# Altium schematic symbol library IC.SchLib: 311 symbols (part 2 of 3)
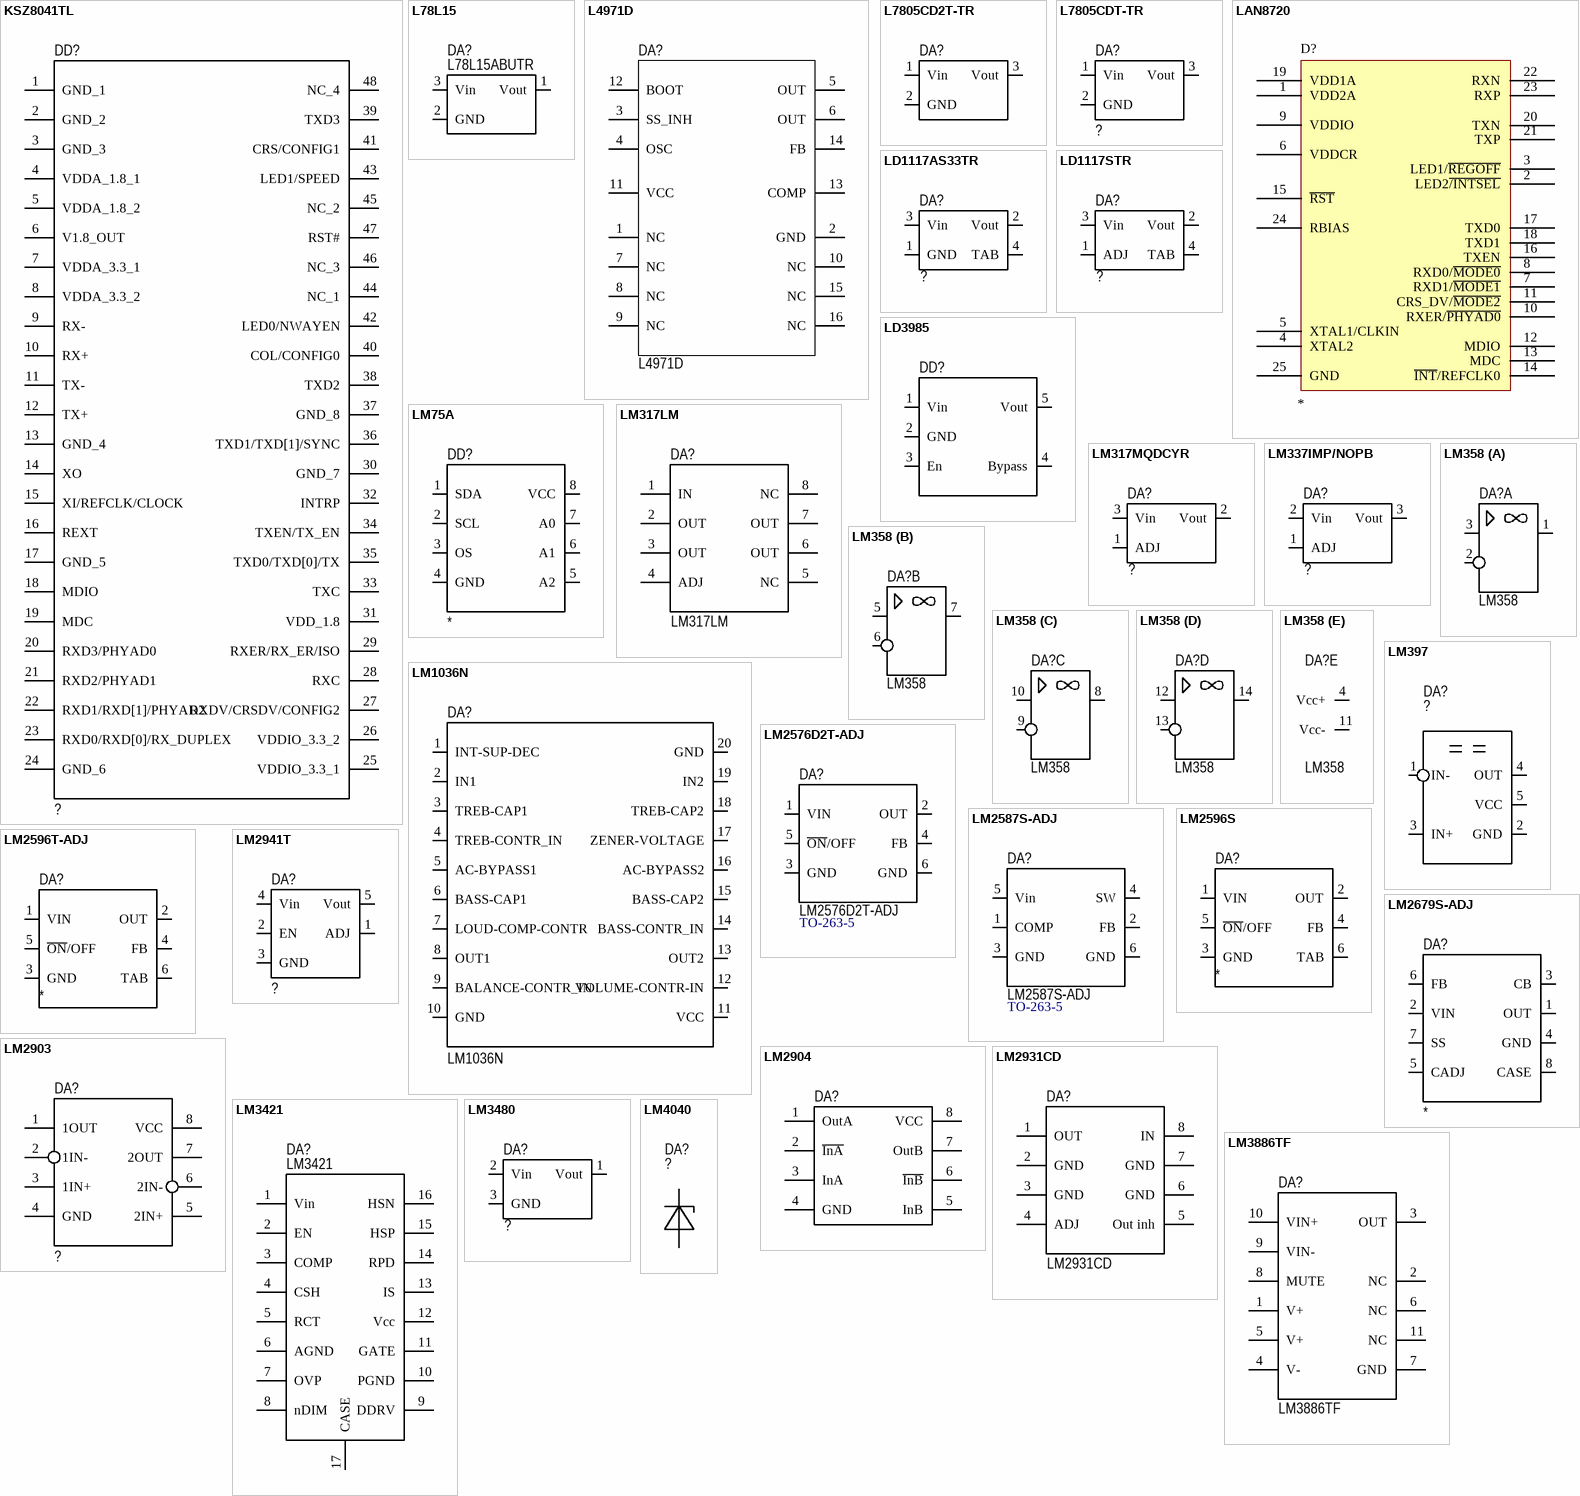
[diagram p24: symbols KSZ8041TL to LM4040]

## LM3886TF
designator DA?
High-Performance 68W Audio Power Amplifier with Mute, 11-pin Isolated TO220, Pb-Free
footprint TF11B (TO, Thru-Hole, Vertical, Heatsink Mounted; 11 Bent Staggered Leads; Pitch 1.7 mm)
pins: 1 V+, 2 NC, 3 OUT, 4 V-, 5 V+, 6 NC, 7 GND, 8 MUTE, 9 VIN-, 10 VIN+, 11 NC

## LM4040
designator DA?, comment ?
pins: 1, 2

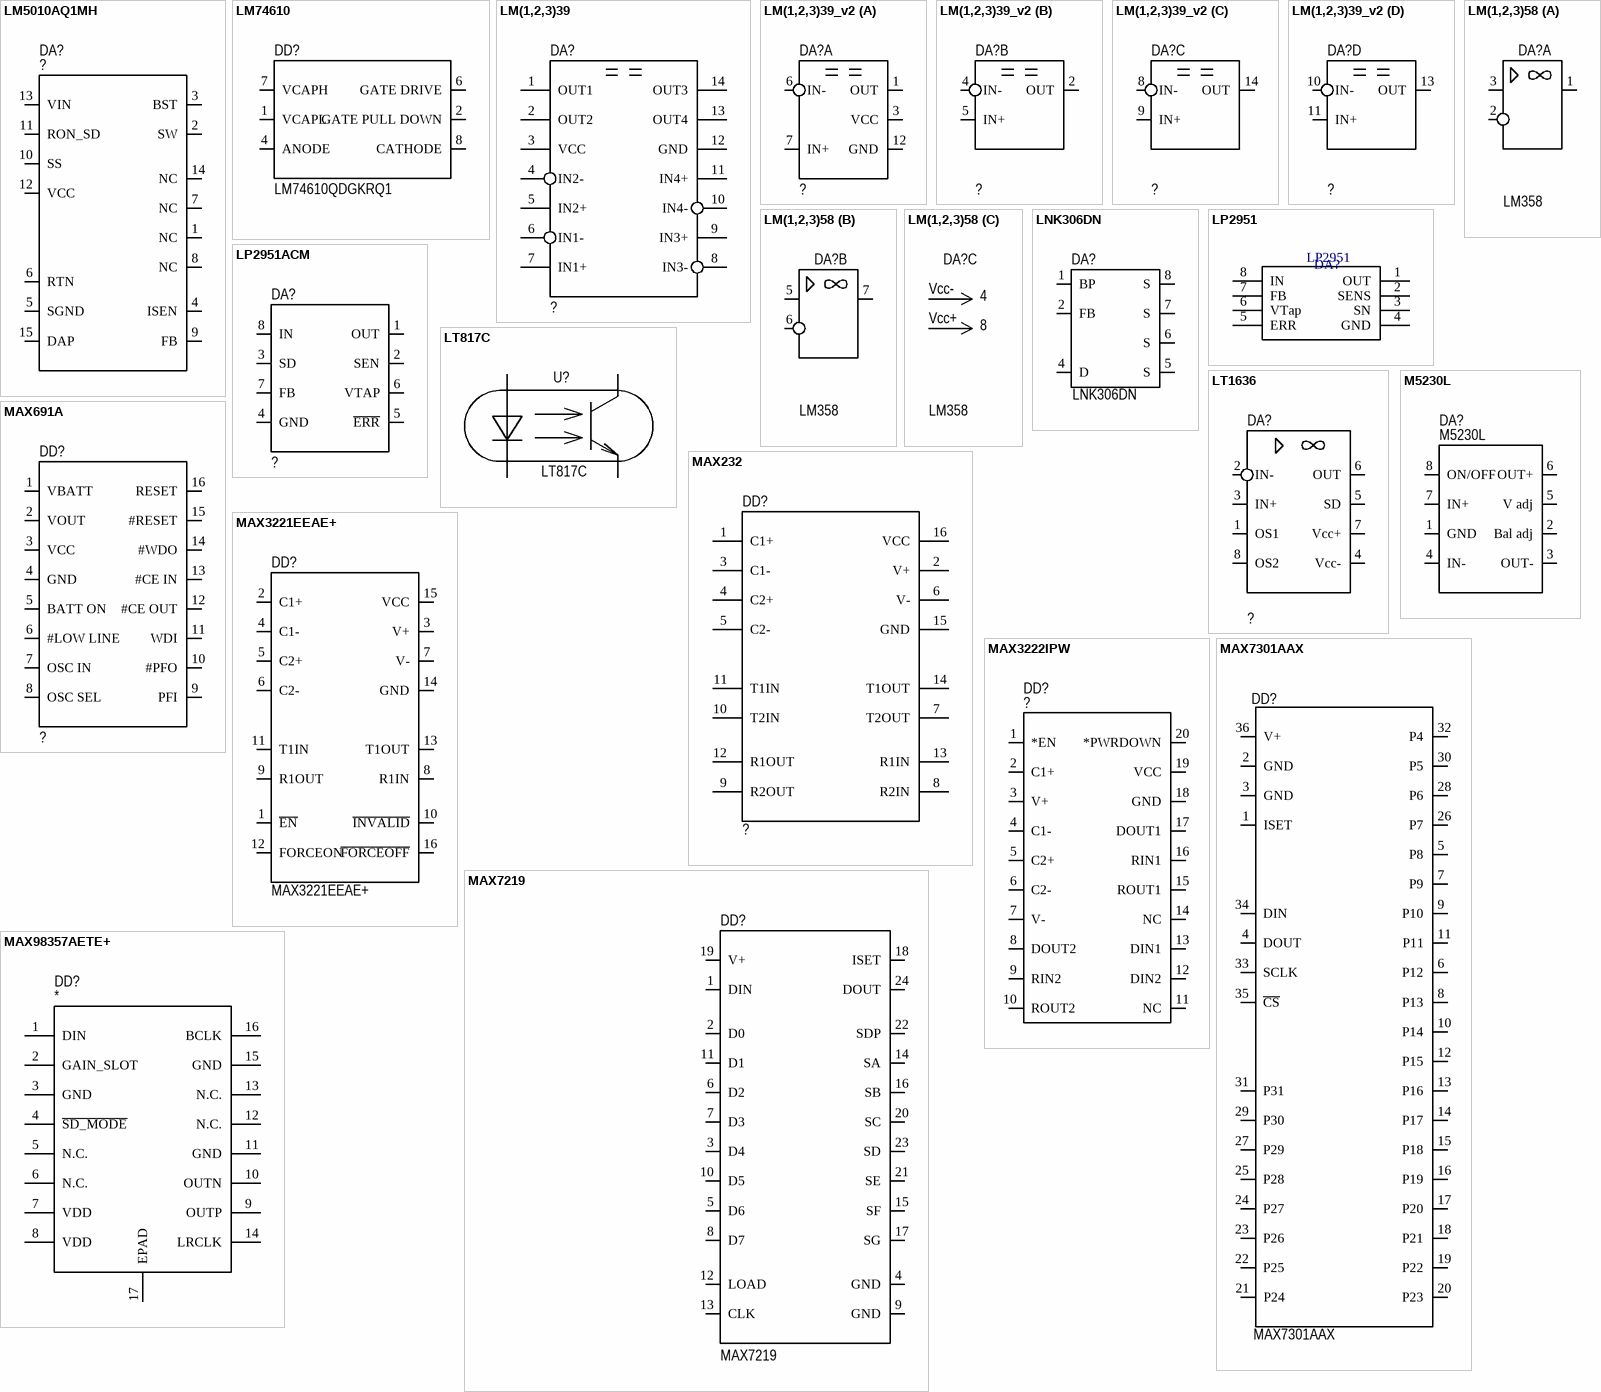
[diagram p8: symbols LM5010AQ1MH to MAX98357AETE+]

## LM5010AQ1MH
designator DA?, comment ?
DC/DC; Mfr_Name: Texas Instruments; Manufacturer_Part_Number: LM5010AQ1MH/NOPB; PartNumber: LM5010AQ1MHX/NOPB; CompType: IC; Type: DEV; RefDes: RefDes; Copyright: Copyright (C) 2023 Ultra Librarian. All rights reserved.; Application_BuildNumber: *; Alternate_PartNumber: LM5010AQ1MH/NOPB; PackageReference: PWP0014A; MountType: SMT; RoHS: Y; Manufacturer: Texas Instruments
pins: 1 NC, 2 SW, 3 BST, 4 ISEN, 5 SGND, 6 RTN, 7 NC, 8 NC, 9 FB, 10 SS, 11 RON_SD, 12 VCC, 13 VIN, 14 NC, 15 DAP

## LM74610
designator DD?, comment LM74610QDGKRQ1
pins: 1 VCAPL, 2 GATE PULL DOWN, 4 ANODE (power), 6 GATE DRIVE, 7 VCAPH, 8 CATHODE

## LM(1,2,3)39
designator DA?, comment ?
Компараторы LM339B, LM2901B, LM339, LM239, LM139, LM2901
pins: 1 OUT1, 2 OUT2, 3 VCC, 4 IN2-, 5 IN2+, 6 IN1-, 7 IN1+, 8 IN3-, 9 IN3+, 10 IN4-, 11 IN4+, 12 GND, 13 OUT4, 14 OUT3

## LM(1,2,3)39_v2
designator DA?, comment ?
Компараторы LM339B, LM2901B, LM339, LM239, LM139, LM2901
part A pins: 1 OUT, 3 VCC, 6 IN-, 7 IN+, 12 GND
part B pins: 2 OUT, 4 IN-, 5 IN+
part C pins: 8 IN-, 9 IN+, 14 OUT
part D pins: 10 IN-, 11 IN+, 13 OUT
1 alternate drawing of the same symbol

## LM(1,2,3)58
designator DA?, comment LM358
Type: SO-8
footprint SO8_2 (SOIC, 8-Leads, Body 4.9x3.9mm, Pitch 1.27mm, IPC Medium Density)
footprint DIP-8
part A pins: 1, 2, 3
part B pins: 5, 6, 7
part C pins: 4, 8
3 alternate drawings of the same symbol

## LNK306DN
designator DA?
Type: SO-8C
footprint SO8-C (SOIC, 8-Leads, Body 4.9x3.9mm, Pitch 1.27mm, IPC Medium Density)
pins: 1 BP, 2 FB, 4 D, 5 S, 6 S, 7 S, 8 S

## LP2951
designator DA?  value LP2951  (hidden comment: *)
footprint SO8
pins: 1 OUT, 2 SENS, 3 SN, 4 GND, 5 ERR, 6 VTap, 7 FB, 8 IN

## LP2951ACM
designator DA?, comment ?
Series of Adjustable Micropower Voltage Regulator
pins: 1 OUT, 2 SEN, 3 SD, 4 GND, 5 ~{ERR}, 6 VTAP, 7 FB, 8 IN

## LT817C
designator U?
Name: Оптопара транзисторная; Value: LT817C; Type: DIP-4
footprint DIP-4
pins: 1, 2, 3, 4

## LT1636
designator DA?, comment ?
ОУ
pins: 1 OS1, 2 IN-, 3 IN+, 4 Vcc-, 5 SD, 6 OUT, 7 Vcc+, 8 OS2
1 alternate drawing of the same symbol

## M5230L
designator DA?
pins: 1 GND "Receiver Output", 2 Bal adj "Receiver Output", 3 OUT- "Receiver Output", 4 IN- "Receiver Output", 5 V adj "Noninverting Receiver Input A/Driver Output A", 6 OUT+ "Noninverting Receiver Input A/Driver Output A", 7 IN+ "Noninverting Receiver Input A/Driver Output A", 8 ON/OFF "Noninverting Receiver Input A/Driver Output A"

## MAX232
designator DD?, comment ?
pins: 1 C1+, 2 V+ (power), 3 C1-, 4 C2+, 5 C2-, 6 V- (power), 7 T2OUT, 8 R2IN, 9 R2OUT, 10 T2IN, 11 T1IN, 12 R1OUT, 13 R1IN, 14 T1OUT, 15 GND (power), 16 VCC (power)

## MAX691A
designator DD?, comment ?
Супервизор
pins: 1 VBATT, 2 VOUT, 3 VCC, 4 GND, 5 BATT ON, 6 #LOW LINE, 7 OSC IN, 8 OSC SEL, 9 PFI, 10 #PFO, 11 WDI, 12 #CE OUT, 13 #CE IN, 14 #WDO, 15 #RESET, 16 RESET

## MAX3221EEAE+
designator DD?
ИС, интерфейс RS-232 15kV ESD-Protected, 1 A, 3.0V to 5.5V, 250kbps, RS-232 Transceivers with AutoShutdown; Type: SO-16; ComponentLink1Description: DataSheet (www.maximintegrated.com); ComponentLink1URL: https://datasheets.maximintegrated.com/en/ds/MAX3221E-MAX3243E.pdf
footprint SSOP16-5.3 (016-Lead Plastic SSOP (5.3mm))
pins: 1 ~{EN}, 2 C1+, 3 V+ (power), 4 C1-, 5 C2+, 6 C2-, 7 V- (power), 8 R1IN, 9 R1OUT, 10 ~{INVALID}, 11 T1IN, 12 FORCEON, 13 T1OUT, 14 GND (power), 15 VCC (power), 16 ~{FORCEOFF}

## MAX3222IPW
designator DD?, comment ?
RS232; Mfr_Name: Texas Instruments; Manufacturer_Part_Number: MAX3222IPWR; Copyright: Copyright (C) 2023 Ultra Librarian. All rights reserved.; RefDes: RefDes; Type: DEV
pins: 1 *EN, 2 C1+, 3 V+, 4 C1-, 5 C2+, 6 C2-, 7 V-, 8 DOUT2, 9 RIN2, 10 ROUT2, 11 NC, 12 DIN2, 13 DIN1, 14 NC, 15 ROUT1, 16 RIN1, 17 DOUT1, 18 GND, 19 VCC, 20 *PWRDOWN

## MAX7219
designator DD?
Type: SO-8
footprint WSO24 (SOIC, 20-Leads, Body 10.3x7.5mm, Pitch 1.27mm)
pins: 1 DIN "Ground", 2 D0 "5 V Power Supply", 3 D4 "5 V Power Supply", 4 GND "Receiver Output Enable", 5 D6 "5 V Power Supply", 6 D2 "5 V Power Supply", 7 D3 "5 V Power Supply", 8 D7 "5 V Power Supply", 9 GND "Receiver Output Enable", 10 D5 "5 V Power Supply", 11 D1 "5 V Power Supply", 12 LOAD "Receiver Output Enable", 13 CLK "Receiver Output Enable", 14 SA "5 V Power Supply", 15 SF, 16 SB, 17 SG, 18 ISET "Driver Input", 19 V+ "Driver Output Enable", 20 SC, 21 SE, 22 SDP "5 V Power Supply", 23 SD, 24 DOUT "Receiver Output Enable"

## MAX7301AAX
designator DD?
Manufacturer: Cypress; Type: CY8C29466-24SXI
footprint SSOP36 (Корпус SSOP-36 шаг 0.8mm)
pins: 1 ISET, 2 GND (power), 3 GND (power), 4 DOUT, 5 P8, 6 P12, 7 P9, 8 P13, 9 P10, 10 P14, 11 P11, 12 P15, 13 P16, 14 P17, 15 P18, 16 P19, 17 P20, 18 P21, 19 P22, 20 P23, 21 P24, 22 P25, 23 P26, 24 P27, 25 P28, 26 P7, 27 P29, 28 P6, 29 P30, 30 P5, 31 P31, 32 P4, 33 SCLK, 34 DIN, 35 ~{CS}, 36 V+ (power)

## MAX98357AETE+
designator DD?
No Description Available; Mfr_Name: Analog Devices Inc; RefDes: RefDes; Type: Type
pins: 1 DIN, 2 GAIN_SLOT, 3 GND, 4 ~{SD_MODE}, 5 N.C., 6 N.C., 7 VDD, 8 VDD, 9 OUTP, 10 OUTN, 11 GND, 12 N.C., 13 N.C., 14 LRCLK, 15 GND, 16 BCLK, 17 EPAD

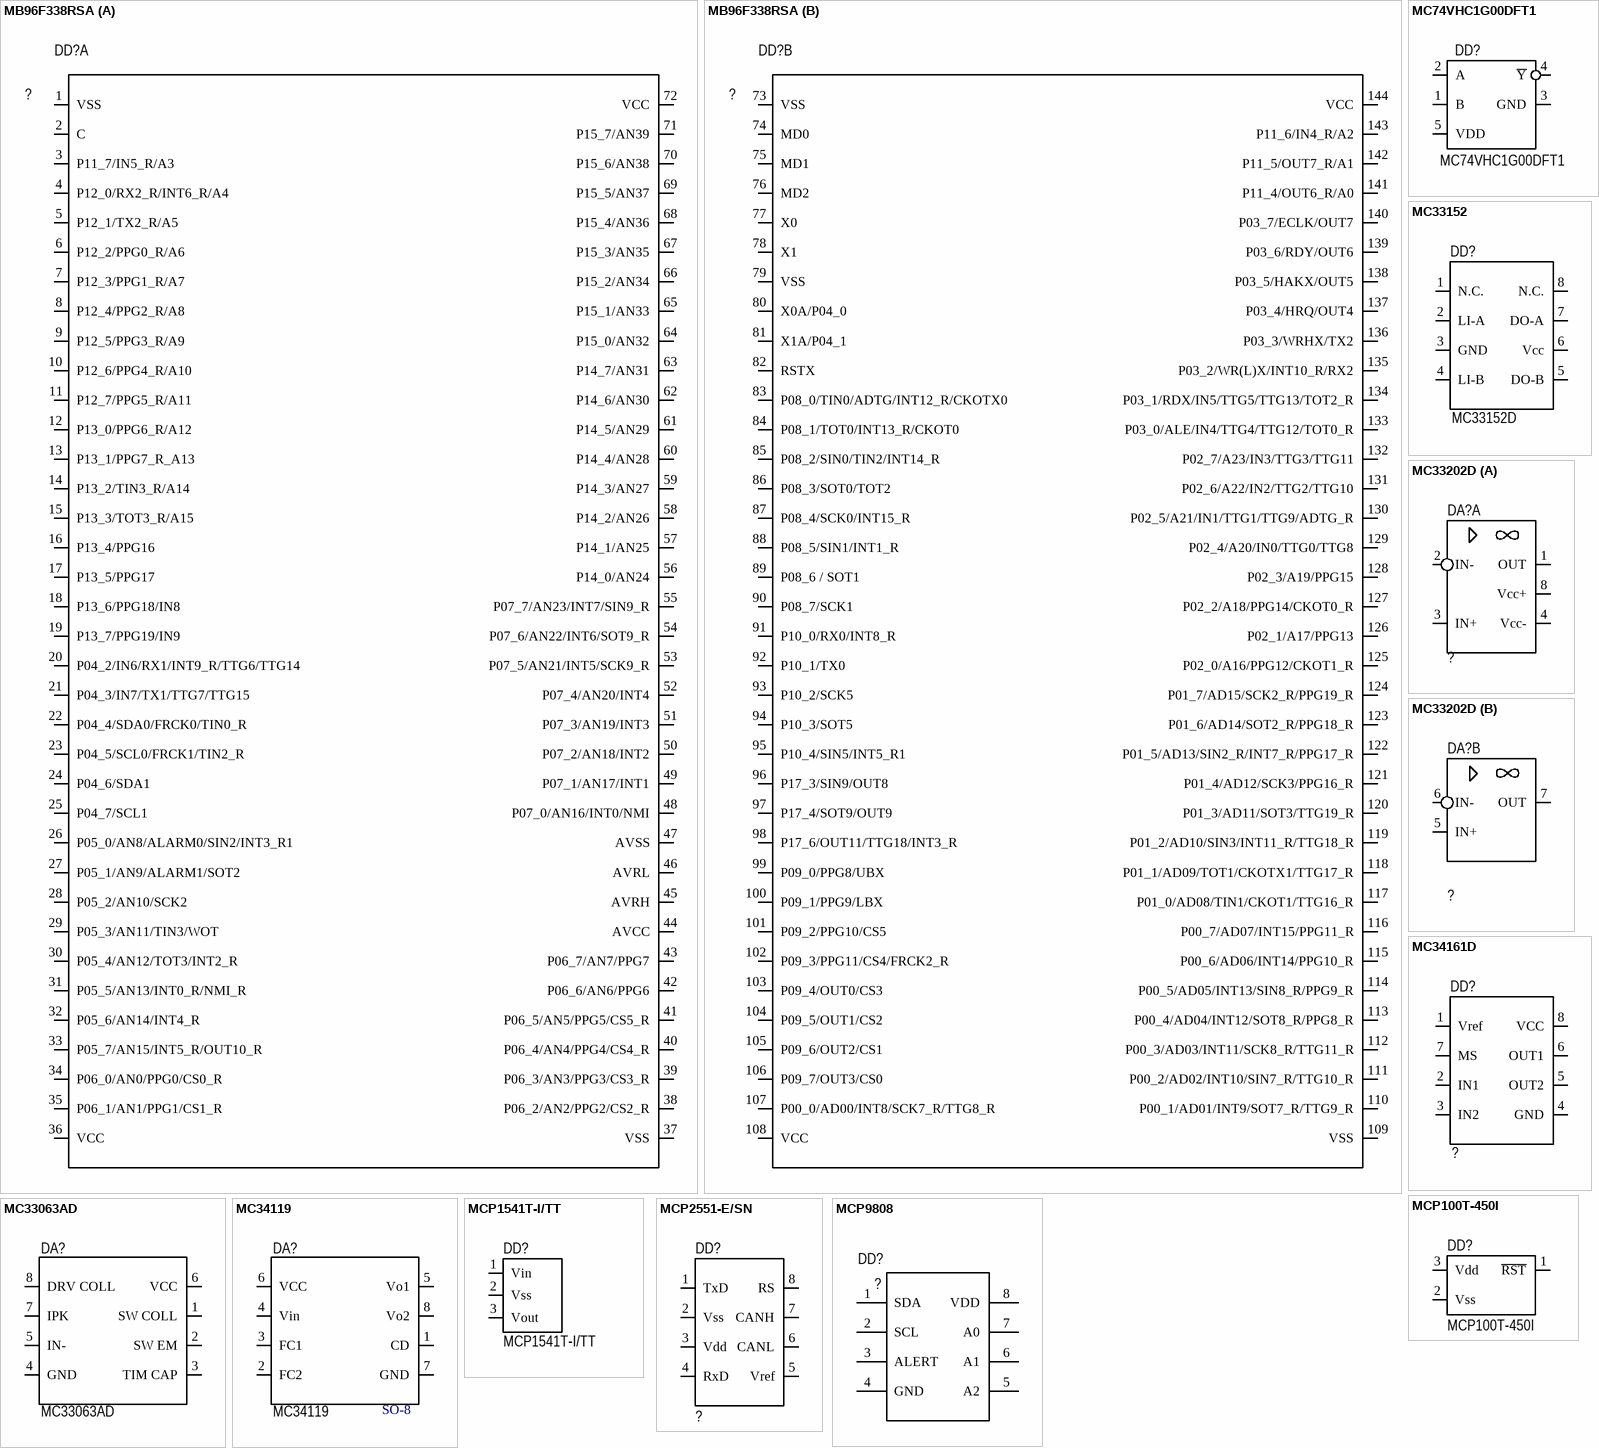
[diagram p9: symbols MB96F338RSA to MCP9808]

## MB96F338RSA
designator DD?, comment ?
Mfr_Name: Fujitsu Semiconductor; Manufacturer_Part_Number: MB96F338RSA PMC-GSE2; Copyright: Copyright (C) 2023 Ultra Librarian. All rights reserved.; RefDes: RefDes; Type: DEV
part A pins: 1 VSS, 2 C, 3 P11_7/IN5_R/A3, 4 P12_0/RX2_R/INT6_R/A4, 5 P12_1/TX2_R/A5, 6 P12_2/PPG0_R/A6, 7 P12_3/PPG1_R/A7, 8 P12_4/PPG2_R/A8, 9 P12_5/PPG3_R/A9, 10 P12_6/PPG4_R/A10, 11 P12_7/PPG5_R/A11, 12 P13_0/PPG6_R/A12, 13 P13_1/PPG7_R_A13, 14 P13_2/TIN3_R/A14, 15 P13_3/TOT3_R/A15, 16 P13_4/PPG16, 17 P13_5/PPG17, 18 P13_6/PPG18/IN8, 19 P13_7/PPG19/IN9, 20 P04_2/IN6/RX1/INT9_R/TTG6/TTG14, 21 P04_3/IN7/TX1/TTG7/TTG15, 22 P04_4/SDA0/FRCK0/TIN0_R, 23 P04_5/SCL0/FRCK1/TIN2_R, 24 P04_6/SDA1, 25 P04_7/SCL1, 26 P05_0/AN8/ALARM0/SIN2/INT3_R1, 27 P05_1/AN9/ALARM1/SOT2, 28 P05_2/AN10/SCK2, 29 P05_3/AN11/TIN3/WOT, 30 P05_4/AN12/TOT3/INT2_R, 31 P05_5/AN13/INT0_R/NMI_R, 32 P05_6/AN14/INT4_R, 33 P05_7/AN15/INT5_R/OUT10_R, 34 P06_0/AN0/PPG0/CS0_R, 35 P06_1/AN1/PPG1/CS1_R, 36 VCC, 37 VSS, 38 P06_2/AN2/PPG2/CS2_R, 39 P06_3/AN3/PPG3/CS3_R, 40 P06_4/AN4/PPG4/CS4_R, 41 P06_5/AN5/PPG5/CS5_R, 42 P06_6/AN6/PPG6, 43 P06_7/AN7/PPG7, 44 AVCC, 45 AVRH, 46 AVRL, 47 AVSS, 48 P07_0/AN16/INT0/NMI, 49 P07_1/AN17/INT1, 50 P07_2/AN18/INT2, 51 P07_3/AN19/INT3, 52 P07_4/AN20/INT4, 53 P07_5/AN21/INT5/SCK9_R, 54 P07_6/AN22/INT6/SOT9_R, 55 P07_7/AN23/INT7/SIN9_R, 56 P14_0/AN24, 57 P14_1/AN25, 58 P14_2/AN26, 59 P14_3/AN27, 60 P14_4/AN28, 61 P14_5/AN29, 62 P14_6/AN30, 63 P14_7/AN31, 64 P15_0/AN32, 65 P15_1/AN33, 66 P15_2/AN34, 67 P15_3/AN35, 68 P15_4/AN36, 69 P15_5/AN37, 70 P15_6/AN38, 71 P15_7/AN39, 72 VCC
part B pins: 73 VSS, 74 MD0, 75 MD1, 76 MD2, 77 X0, 78 X1, 79 VSS, 80 X0A/P04_0, 81 X1A/P04_1, 82 RSTX, 83 P08_0/TIN0/ADTG/INT12_R/CKOTX0, 84 P08_1/TOT0/INT13_R/CKOT0, 85 P08_2/SIN0/TIN2/INT14_R, 86 P08_3/SOT0/TOT2, 87 P08_4/SCK0/INT15_R, 88 P08_5/SIN1/INT1_R, 89 P08_6 / SOT1, 90 P08_7/SCK1, 91 P10_0/RX0/INT8_R, 92 P10_1/TX0, 93 P10_2/SCK5, 94 P10_3/SOT5, 95 P10_4/SIN5/INT5_R1, 96 P17_3/SIN9/OUT8, 97 P17_4/SOT9/OUT9, 98 P17_6/OUT11/TTG18/INT3_R, 99 P09_0/PPG8/UBX, 100 P09_1/PPG9/LBX, 101 P09_2/PPG10/CS5, 102 P09_3/PPG11/CS4/FRCK2_R, 103 P09_4/OUT0/CS3, 104 P09_5/OUT1/CS2, 105 P09_6/OUT2/CS1, 106 P09_7/OUT3/CS0, 107 P00_0/AD00/INT8/SCK7_R/TTG8_R, 108 VCC, 109 VSS, 110 P00_1/AD01/INT9/SOT7_R/TTG9_R, 111 P00_2/AD02/INT10/SIN7_R/TTG10_R, 112 P00_3/AD03/INT11/SCK8_R/TTG11_R, 113 P00_4/AD04/INT12/SOT8_R/PPG8_R, 114 P00_5/AD05/INT13/SIN8_R/PPG9_R, 115 P00_6/AD06/INT14/PPG10_R, 116 P00_7/AD07/INT15/PPG11_R, 117 P01_0/AD08/TIN1/CKOT1/TTG16_R, 118 P01_1/AD09/TOT1/CKOTX1/TTG17_R, 119 P01_2/AD10/SIN3/INT11_R/TTG18_R, 120 P01_3/AD11/SOT3/TTG19_R, 121 P01_4/AD12/SCK3/PPG16_R, 122 P01_5/AD13/SIN2_R/INT7_R/PPG17_R, 123 P01_6/AD14/SOT2_R/PPG18_R, 124 P01_7/AD15/SCK2_R/PPG19_R, 125 P02_0/A16/PPG12/CKOT1_R, 126 P02_1/A17/PPG13, 127 P02_2/A18/PPG14/CKOT0_R, 128 P02_3/A19/PPG15, 129 P02_4/A20/IN0/TTG0/TTG8, 130 P02_5/A21/IN1/TTG1/TTG9/ADTG_R, 131 P02_6/A22/IN2/TTG2/TTG10, 132 P02_7/A23/IN3/TTG3/TTG11, 133 P03_0/ALE/IN4/TTG4/TTG12/TOT0_R, 134 P03_1/RDX/IN5/TTG5/TTG13/TOT2_R, 135 P03_2/WR(L)X/INT10_R/RX2, 136 P03_3/WRHX/TX2, 137 P03_4/HRQ/OUT4, 138 P03_5/HAKX/OUT5, 139 P03_6/RDY/OUT6, 140 P03_7/ECLK/OUT7, 141 P11_4/OUT6_R/A0, 142 P11_5/OUT7_R/A1, 143 P11_6/IN4_R/A2, 144 VCC

## MC74VHC1G00DFT1
designator DD?
2-Input NAND Gate; Published: 15-Apr-2002; DatasheetDocument: Dec-1999; PackageDocument: Oct-1999; PackageReference: 419A-01; Publisher: Altium Limited
footprint SOT-23-5(3-2)
pins: 1 B, 2 A, 3 GND, 4 ~{Y}, 5 VDD

## MC33063AD
designator DA?
DC-to-DC Converter Control Circuit
pins: 1 SW COLL, 2 SW EM, 3 TIM CAP, 4 GND (power), 5 IN-, 6 VCC (power), 7 IPK, 8 DRV COLL (oc)
1 alternate drawing of the same symbol

## MC33152
designator DD?, comment MC33152D
footprint SO8_2 (SOIC, 8-Leads, Body 4.9x3.9mm, Pitch 1.27mm, IPC Medium Density)
pins: 1 N.C. "Receiver Output", 2 LI-A "Receiver Output", 3 GND "Receiver Output", 4 LI-B "Receiver Output", 5 DO-B "Noninverting Receiver Input A/Driver Output A", 6 Vcc "Noninverting Receiver Input A/Driver Output A", 7 DO-A "Noninverting Receiver Input A/Driver Output A", 8 N.C. "Noninverting Receiver Input A/Driver Output A"

## MC33202D
designator DA?, comment ?
Case/Code: SOIC-8
part A pins: 1 OUT, 2 IN-, 3 IN+, 4 Vcc-, 8 Vcc+
part B pins: 5 IN+, 6 IN-, 7 OUT
1 alternate drawing of the same symbol

## MC34119
designator DA?  Type: SO-8
Audio amplifier
footprint SO8_2 (SOIC, 8-Leads, Body 4.9x3.9mm, Pitch 1.27mm, IPC Medium Density)
pins: 1 CD, 2 FC2, 3 FC1, 4 Vin (power), 5 Vo1, 6 VCC (power), 7 GND, 8 Vo2 (oc)

## MC34161D
designator DD?, comment ?
Монитор питания
pins: 1 Vref, 2 IN1 "Input 1", 3 IN2 "Input 2", 4 GND "Receiver Output", 5 OUT2 "Output 2", 6 OUT1 "Output 1", 7 MS "Mode Select", 8 VCC "Vcc"

## MCP100T-450I
designator DD?
footprint SOT-23
pins: 1 ~{RST}, 2 Vss, 3 Vdd

## MCP1541T-I/TT
designator DD?
footprint SOT-23
pins: 1 Vin, 2 Vss, 3 Vout

## MCP2551-E/SN
designator DD?, comment ?
CAN Transiver
pins: 1 TxD "Driver Input", 2 Vss "Ground", 3 Vdd "Ground", 4 RxD "Ground", 5 Vref "Ground", 6 CANL "Ground", 7 CANH "Ground", 8 RS "Ground"

## MCP9808
designator DD?, comment ?
pins: 1 SDA, 2 SCL, 3 ALERT, 4 GND, 5 A2, 6 A1, 7 A0, 8 VDD

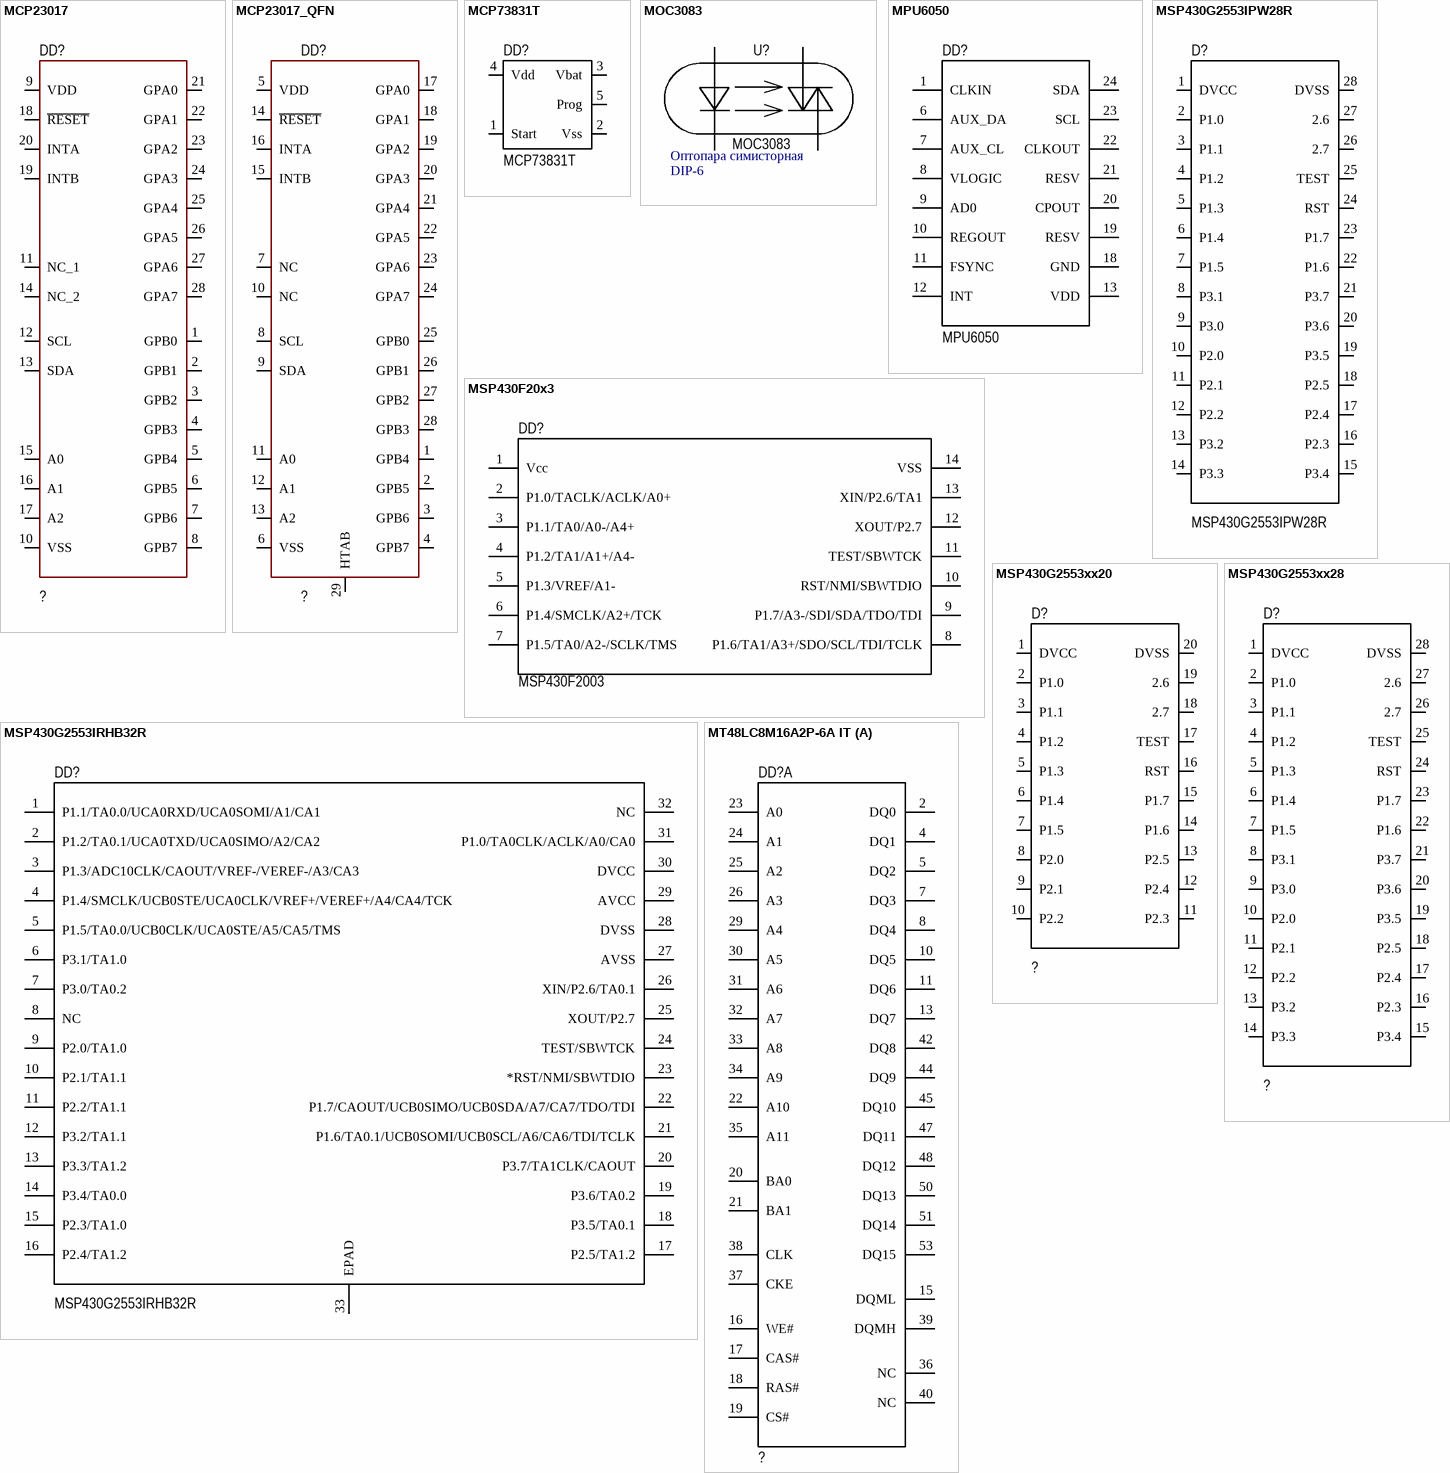
[diagram p10: symbols MCP23017 to MT48LC8M16A2P-6A IT]

## MCP23017
designator DD?, comment ?
Расширитель порта; Manufacturer_Name: Microchip; Manufacturer_Part_Number: MCP23017-E/SO; Datasheet Link: https://datasheet.datasheetarchive.com/originals/distributors/SFDatasheet-4/sf-00090057.pdf; Height: 2.65mm
pins: 1 GPB0, 2 GPB1, 3 GPB2, 4 GPB3, 5 GPB4, 6 GPB5, 7 GPB6, 8 GPB7, 9 VDD, 10 VSS, 11 NC_1, 12 SCL, 13 SDA, 14 NC_2, 15 A0, 16 A1, 17 A2, 18 ~{RESET}, 19 INTB, 20 INTA, 21 GPA0, 22 GPA1, 23 GPA2, 24 GPA3, 25 GPA4, 26 GPA5, 27 GPA6, 28 GPA7

## MCP23017_QFN
designator DD?, comment ?
Расширитель порта; Manufacturer_Name: Microchip; Manufacturer_Part_Number: MCP23017-E/SO; Datasheet Link: https://datasheet.datasheetarchive.com/originals/distributors/SFDatasheet-4/sf-00090057.pdf; Height: 2.65mm
pins: 1 GPB4, 2 GPB5, 3 GPB6, 4 GPB7, 5 VDD, 6 VSS, 7 NC, 8 SCL, 9 SDA, 10 NC, 11 A0, 12 A1, 13 A2, 14 ~{RESET}, 15 INTB, 16 INTA, 17 GPA0, 18 GPA1, 19 GPA2, 20 GPA3, 21 GPA4, 22 GPA5, 23 GPA6, 24 GPA7, 25 GPB0, 26 GPB1, 27 GPB2, 28 GPB3, 29 HTAB

## MCP73831T
designator DD?
footprint SOT-23-5(3-2)
pins: 1 Start, 2 Vss, 3 Vbat, 4 Vdd, 5 Prog

## MOC3083
designator U?  Name: Оптопара симисторная  Type: DIP-6
footprint DIP-6
footprint SMD-6
pins: 1, 2, 4, 6

## MPU6050
designator DD?
Type: QFN-24
footprint QFN24 (QFN, 24-Leads, Body 4x4mm, Pitch 0.65mm, Thermal Pad 5.3x5.3mm, IPC Medium Density)
pins: 1 CLKIN, 6 AUX_DA, 7 AUX_CL, 8 VLOGIC, 9 AD0, 10 REGOUT, 11 FSYNC, 12 INT, 13 VDD, 18 GND, 19 RESV, 20 CPOUT, 21 RESV, 22 CLKOUT, 23 SCL, 24 SDA

## MSP430F20x3
designator DD?, comment MSP430F2003
footprint TSSOP-14
pins: 1 Vcc, 2 P1.0/TACLK/ACLK/A0+, 3 P1.1/TA0/A0-/A4+, 4 P1.2/TA1/A1+/A4-, 5 P1.3/VREF/A1-, 6 P1.4/SMCLK/A2+/TCK, 7 P1.5/TA0/A2-/SCLK/TMS, 8 P1.6/TA1/A3+/SDO/SCL/TDI/TCLK, 9 P1.7/A3-/SDI/SDA/TDO/TDI, 10 RST/NMI/SBWTDIO, 11 TEST/SBWTCK, 12 XOUT/P2.7, 13 XIN/P2.6/TA1, 14 VSS

## MSP430G2553IPW28R
designator D?
16 MHz MCU with 16 KB Flash, 512 Byte RAM, 10-bit ADC, 24 IO, 2 16-bit Timers and comparator; ComponentLink1Description: DataSheet (TI); ComponentLink1URL: http://www.ti.com/lit/ds/symlink/am26ls31.pdf
footprint TSSOP-28
pins: 1 DVCC, 2 P1.0, 3 P1.1, 4 P1.2, 5 P1.3, 6 P1.4, 7 P1.5, 8 P3.1, 9 P3.0, 10 P2.0, 11 P2.1, 12 P2.2, 13 P3.2, 14 P3.3, 15 P3.4, 16 P2.3, 17 P2.4, 18 P2.5, 19 P3.5, 20 P3.6, 21 P3.7, 22 P1.6, 23 P1.7, 24 RST, 25 TEST, 26 2.7, 27 2.6, 28 DVSS

## MSP430G2553IRHB32R
designator DD?
Mfr_Name: Texas Instruments; Copyright: Copyright (C) 2023 Ultra Librarian. All rights reserved.; Manufacturer_Part_Number: MSP430G2553IRHB32R; RefDes: RefDes; Type: DEV
pins: 1 P1.1/TA0.0/UCA0RXD/UCA0SOMI/A1/CA1, 2 P1.2/TA0.1/UCA0TXD/UCA0SIMO/A2/CA2, 3 P1.3/ADC10CLK/CAOUT/VREF-/VEREF-/A3/CA3, 4 P1.4/SMCLK/UCB0STE/UCA0CLK/VREF+/VEREF+/A4/CA4/TCK, 5 P1.5/TA0.0/UCB0CLK/UCA0STE/A5/CA5/TMS, 6 P3.1/TA1.0, 7 P3.0/TA0.2, 8 NC, 9 P2.0/TA1.0, 10 P2.1/TA1.1, 11 P2.2/TA1.1, 12 P3.2/TA1.1, 13 P3.3/TA1.2, 14 P3.4/TA0.0, 15 P2.3/TA1.0, 16 P2.4/TA1.2, 17 P2.5/TA1.2, 18 P3.5/TA0.1, 19 P3.6/TA0.2, 20 P3.7/TA1CLK/CAOUT, 21 P1.6/TA0.1/UCB0SOMI/UCB0SCL/A6/CA6/TDI/TCLK, 22 P1.7/CAOUT/UCB0SIMO/UCB0SDA/A7/CA7/TDO/TDI, 23 *RST/NMI/SBWTDIO, 24 TEST/SBWTCK, 25 XOUT/P2.7, 26 XIN/P2.6/TA0.1, 27 AVSS, 28 DVSS, 29 AVCC, 30 DVCC, 31 P1.0/TA0CLK/ACLK/A0/CA0, 32 NC, 33 EPAD

## MSP430G2553xx20
designator D?, comment ?
ComponentLink1Description: DataSheet (TI); ComponentLink1URL: http://www.ti.com/lit/ds/symlink/am26ls31.pdf
pins: 1 DVCC, 2 P1.0, 3 P1.1, 4 P1.2, 5 P1.3, 6 P1.4, 7 P1.5, 8 P2.0, 9 P2.1, 10 P2.2, 11 P2.3, 12 P2.4, 13 P2.5, 14 P1.6, 15 P1.7, 16 RST, 17 TEST, 18 2.7, 19 2.6, 20 DVSS

## MSP430G2553xx28
designator D?, comment ?
ComponentLink1Description: DataSheet (TI); ComponentLink1URL: http://www.ti.com/lit/ds/symlink/am26ls31.pdf
pins: 1 DVCC, 2 P1.0, 3 P1.1, 4 P1.2, 5 P1.3, 6 P1.4, 7 P1.5, 8 P3.1, 9 P3.0, 10 P2.0, 11 P2.1, 12 P2.2, 13 P3.2, 14 P3.3, 15 P3.4, 16 P2.3, 17 P2.4, 18 P2.5, 19 P3.5, 20 P3.6, 21 P3.7, 22 P1.6, 23 P1.7, 24 RST, 25 TEST, 26 2.7, 27 2.6, 28 DVSS

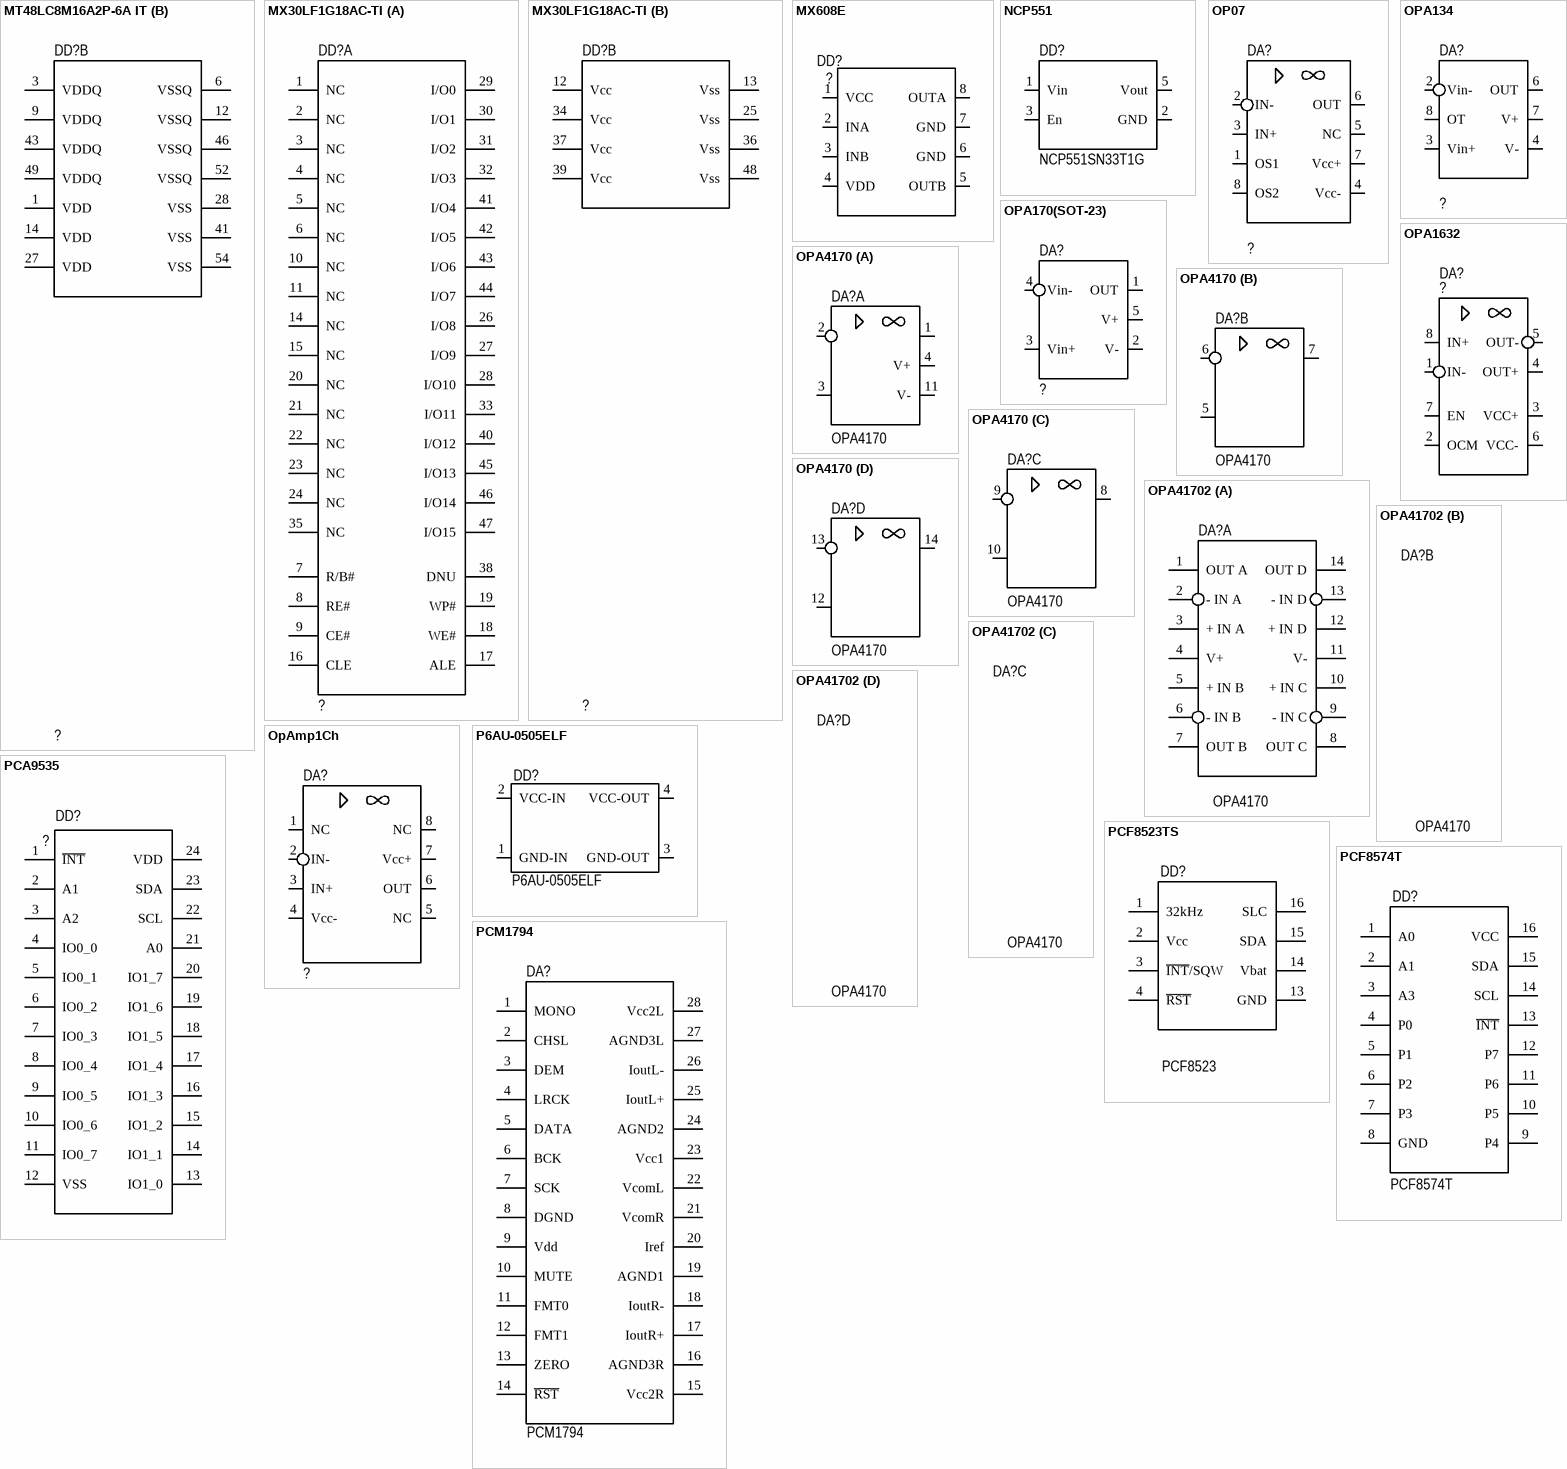
[diagram p11: symbols MT48LC8M16A2P-6A IT to PCM1794]

## MT48LC8M16A2P-6A IT
designator DD?, comment ?
part A pins: 2 DQ0 "Data bus for x16 (pins 4, 7, 10, 13, 42, 45, 48, and 51 are NC for x8; andpins 2, 4, 7, 8, 10, 13, 42, 45, 47, 48, 51, and 53 are NC for x4)", 4 DQ1 "Data bus for x16 (pins 4, 7, 10, 13, 42, 45, 48, and 51 are NC for x8; andpins 2, 4, 7, 8, 10, 13, 42, 45, 47, 48, 51, and 53 are NC for x4)", 5 DQ2 "Data bus for x16 (pins 4, 7, 10, 13, 42, 45, 48, and 51 are NC for x8; andpins 2, 4, 7, 8, 10, 13, 42, 45, 47, 48, 51, and 53 are NC for x4)", 7 DQ3 "Data bus for x16 (pins 4, 7, 10, 13, 42, 45, 48, and 51 are NC for x8; andpins 2, 4, 7, 8, 10, 13, 42, 45, 47, 48, 51, and 53 are NC for x4)", 8 DQ4 "Data bus for x16 (pins 4, 7, 10, 13, 42, 45, 48, and 51 are NC for x8; andpins 2, 4, 7, 8, 10, 13, 42, 45, 47, 48, 51, and 53 are NC for x4)", 10 DQ5 "Data bus for x16 (pins 4, 7, 10, 13, 42, 45, 48, and 51 are NC for x8; andpins 2, 4, 7, 8, 10, 13, 42, 45, 47, 48, 51, and 53 are NC for x4)", 11 DQ6 "Data bus for x16 (pins 4, 7, 10, 13, 42, 45, 48, and 51 are NC for x8; andpins 2, 4, 7, 8, 10, 13, 42, 45, 47, 48, 51, and 53 are NC for x4)", 13 DQ7 "Data bus for x16 (pins 4, 7, 10, 13, 42, 45, 48, and 51 are NC for x8; andpins 2, 4, 7, 8, 10, 13, 42, 45, 47, 48, 51, and 53 are NC for x4)", 15 DQML "DQML corresponds to DQ[7:0] and DQMH corresponds to DQ[15:8]. DQML and DQMH are considered same-state when referenced as DQM.", 16 WE# "define the command being entered.", 17 CAS# "define the command being entered.", 18 RAS# "define the command being entered.", 19 CS# "CS# enables (registered LOW) and disables (registered HIGH) the command decoder. All commands are masked when CS# is registered HIGH, but READ/WRITE bursts alreadyin progress will continue, and DQM operation will retain its (See Datasheet)", 20 BA0 "define to which bank the ACTIVE, READ,WRITE,orPRECHARGE command is being applied.", 21 BA1 "define to which bank the ACTIVE, READ,WRITE,orPRECHARGE command is being applied.", 22 A10 "A[11:0] are sampled during the ACTIVE command (row address A[11:0]) andREAD or WRITE command (column address A[9:0] and A11 for x4; A[9:0] for x8; A[8:0] for x16;with A10 defining auto precharge) to select one location out (See Datasheet)", 23 A0 "A[11:0] are sampled during the ACTIVE command (row address A[11:0]) andREAD or WRITE command (column address A[9:0] and A11 for x4; A[9:0] for x8; A[8:0] for x16;with A10 defining auto precharge) to select one location out (See Datasheet)", 24 A1 "A[11:0] are sampled during the ACTIVE command (row address A[11:0]) andREAD or WRITE command (column address A[9:0] and A11 for x4; A[9:0] for x8; A[8:0] for x16;with A10 defining auto precharge) to select one location out (See Datasheet)", 25 A2 "A[11:0] are sampled during the ACTIVE command (row address A[11:0]) andREAD or WRITE command (column address A[9:0] and A11 for x4; A[9:0] for x8; A[8:0] for x16;with A10 defining auto precharge) to select one location out (See Datasheet)", 26 A3 "A[11:0] are sampled during the ACTIVE command (row address A[11:0]) andREAD or WRITE command (column address A[9:0] and A11 for x4; A[9:0] for x8; A[8:0] for x16;with A10 defining auto precharge) to select one location out (See Datasheet)", 29 A4 "A[11:0] are sampled during the ACTIVE command (row address A[11:0]) andREAD or WRITE command (column address A[9:0] and A11 for x4; A[9:0] for x8; A[8:0] for x16;with A10 defining auto precharge) to select one location out (See Datasheet)", 30 A5 "A[11:0] are sampled during the ACTIVE command (row address A[11:0]) andREAD or WRITE command (column address A[9:0] and A11 for x4; A[9:0] for x8; A[8:0] for x16;with A10 defining auto precharge) to select one location out (See Datasheet)", 31 A6 "A[11:0] are sampled during the ACTIVE command (row address A[11:0]) andREAD or WRITE command (column address A[9:0] and A11 for x4; A[9:0] for x8; A[8:0] for x16;with A10 defining auto precharge) to select one location out (See Datasheet)", 32 A7 "A[11:0] are sampled during the ACTIVE command (row address A[11:0]) andREAD or WRITE command (column address A[9:0] and A11 for x4; A[9:0] for x8; A[8:0] for x16;with A10 defining auto precharge) to select one location out (See Datasheet)", 33 A8 "A[11:0] are sampled during the ACTIVE command (row address A[11:0]) andREAD or WRITE command (column address A[9:0] and A11 for x4; A[9:0] for x8; A[8:0] for x16;with A10 defining auto precharge) to select one location out (See Datasheet)", 34 A9 "A[11:0] are sampled during the ACTIVE command (row address A[11:0]) andREAD or WRITE command (column address A[9:0] and A11 for x4; A[9:0] for x8; A[8:0] for x16;with A10 defining auto precharge) to select one location out (See Datasheet)", 35 A11 "A[11:0] are sampled during the ACTIVE command (row address A[11:0]) andREAD or WRITE command (column address A[9:0] and A11 for x4; A[9:0] for x8; A[8:0] for x16;with A10 defining auto precharge) to select one location out (See Datasheet)", 36 NC "These should be left unconnected. For x4 and x8 parts, G1 is a no connect; it is A12 for 256Mb and 512Mb devices", 37 CKE "CKE activates (HIGH) and deactivates (LOW) the CLK signal. Deactivating theclock provides precharge power-down and SELF REFRESH operation (all banks idle), activepower-down (row active in any bank), or CLOCK SUSPEND (See Datasheet)", 38 CLK "CLK is driven by the system clock. All SDRAM input signals are sampled on the positive edge of CLK. CLK also increments the internal burst counter and controls the output registers.", 39 DQMH "DQML corresponds to DQ[7:0] and DQMH corresponds to DQ[15:8]. DQML and DQMH are considered same-state when referenced as DQM.", 40 NC "These should be left unconnected. For x4 and x8 parts, G1 is a no connect; it is A12 for 256Mb and 512Mb devices.", 42 DQ8 "Data bus for x16 (pins 4, 7, 10, 13, 42, 45, 48, and 51 are NC for x8; andpins 2, 4, 7, 8, 10, 13, 42, 45, 47, 48, 51, and 53 are NC for x4)", 44 DQ9 "Data bus for x16 (pins 4, 7, 10, 13, 42, 45, 48, and 51 are NC for x8; andpins 2, 4, 7, 8, 10, 13, 42, 45, 47, 48, 51, and 53 are NC for x4)", 45 DQ10 "Data bus for x16 (pins 4, 7, 10, 13, 42, 45, 48, and 51 are NC for x8; andpins 2, 4, 7, 8, 10, 13, 42, 45, 47, 48, 51, and 53 are NC for x4)", 47 DQ11 "Data bus for x16 (pins 4, 7, 10, 13, 42, 45, 48, and 51 are NC for x8; andpins 2, 4, 7, 8, 10, 13, 42, 45, 47, 48, 51, and 53 are NC for x4)", 48 DQ12 "Data bus for x16 (pins 4, 7, 10, 13, 42, 45, 48, and 51 are NC for x8; andpins 2, 4, 7, 8, 10, 13, 42, 45, 47, 48, 51, and 53 are NC for x4)", 50 DQ13 "Data bus for x16 (pins 4, 7, 10, 13, 42, 45, 48, and 51 are NC for x8; andpins 2, 4, 7, 8, 10, 13, 42, 45, 47, 48, 51, and 53 are NC for x4)", 51 DQ14 "Data bus for x16 (pins 4, 7, 10, 13, 42, 45, 48, and 51 are NC for x8; andpins 2, 4, 7, 8, 10, 13, 42, 45, 47, 48, 51, and 53 are NC for x4)", 53 DQ15 "Data bus for x16 (pins 4, 7, 10, 13, 42, 45, 48, and 51 are NC for x8; andpins 2, 4, 7, 8, 10, 13, 42, 45, 47, 48, 51, and 53 are NC for x4)"
part B pins: 1 VDD (power) "3.3V +/-0.3V", 3 VDDQ (power) "Isolated DQ power to the die for improved noise immunity", 6 VSSQ (power) "Isolated DQ ground to the die for improved noise immunity", 9 VDDQ (power) "Isolated DQ power to the die for improved noise immunity", 12 VSSQ (power) "Isolated DQ ground to the die for improved noise immunity", 14 VDD (power) "3.3V +/-0.3V", 27 VDD (power) "3.3V +/-0.3V.", 28 VSS (power) "Ground.", 41 VSS (power) "Ground.", 43 VDDQ (power) "Isolated DQ power to the die for improved noise immunity", 46 VSSQ (power) "Isolated DQ ground to the die for improved noise immunity", 49 VDDQ (power) "Isolated DQ power to the die for improved noise immunity", 52 VSSQ (power) "Isolated DQ ground to the die for improved noise immunity", 54 VSS (power) "Ground."

## MX30LF1G18AC-TI
designator DD?, comment ?
part A pins: 1 NC "Address: Selects the cells in the array to access during READ operations. During WRITE operations, they control the commands sent to the command interface of the program/erase controller.", 2 NC "Address: Selects the cells in the array to access during READ operations. During WRITE operations, they control the commands sent to the command interface of the program/erase controller.", 3 NC "Address: Selects the cells in the array to access during READ operations. During WRITE operations, they control the commands sent to the command interface of the program/erase controller.", 4 NC "Address: Selects the cells in the array to access during READ operations. During WRITE operations, they control the commands sent to the command interface of the program/erase controller.", 5 NC "Address: Selects the cells in the array to access during READ operations. During WRITE operations, they control the commands sent to the command interface of the program/erase controller.", 6 NC "Address: Selects the cells in the array to access during READ operations. During WRITE operations, they control the commands sent to the command interface of the program/erase controller.", 7 R/B# "Address: Selects the cells in the array to access during READ operations. During WRITE operations, they control the commands sent to the command interface of the program/erase controller.", 8 RE# "Address: Selects the cells in the array to access during READ operations. During WRITE operations, they control the commands sent to the command interface of the program/erase controller.", 9 CE# "Address: Selects the cells in the array to access during READ operations. During WRITE operations, they control the commands sent to the command interface of the program/erase controller.", 10 NC "Address: Selects the cells in the array to access during READ operations. During WRITE operations, they control the commands sent to the command interface of the program/erase controller.", 11 NC "Address: Selects the cells in the array to access during READ operations. During WRITE operations, they control the commands sent to the command interface of the program/erase controller.", 14 NC "Address: Selects the cells in the array to access during READ operations. During WRITE operations, they control the commands sent to the command interface of the program/erase controller.", 15 NC "Address: Selects the cells in the array to access during READ operations. During WRITE operations, they control the commands sent to the command interface of the program/erase controller.", 16 CLE "Address: Selects the cells in the array to access during READ operations. During WRITE operations, they control the commands sent to the command interface of the program/erase controller.", 17 ALE "Address: Selects the cells in the array to access during READ operations. During WRITE operations, they control the commands sent to the command interface of the program/erase controller.", 18 WE# "Address: Selects the cells in the array to access during READ operations. During WRITE operations, they control the commands sent to the command interface of the program/erase controller.", 19 WP# "Address: Selects the cells in the array to access during READ operations. During WRITE operations, they control the commands sent to the command interface of the program/erase controller.", 20 NC "Address: Selects the cells in the array to access during READ operations. During WRITE operations, they control the commands sent to the command interface of the program/erase controller.", 21 NC "Address: Selects the cells in the array to access during READ operations. During WRITE operations, they control the commands sent to the command interface of the program/erase controller.", 22 NC "Address: Selects the cells in the array to access during READ operations. During WRITE operations, they control the commands sent to the command interface of the program/erase controller.", 23 NC "Address: Selects the cells in the array to access during READ operations. During WRITE operations, they control the commands sent to the command interface of the program/erase controller.", 24 NC "Address: Selects the cells in the array to access during READ operations. During WRITE operations, they control the commands sent to the command interface of the program/erase controller.", 26 I/O8 "Address: Selects the cells in the array to access during READ operations. During WRITE operations, they control the commands sent to the command interface of the program/erase controller.", 27 I/O9 "Address: Selects the cells in the array to access during READ operations. During WRITE operations, they control the commands sent to the command interface of the program/erase controller.", 28 I/O10 "Address: Selects the cells in the array to access during READ operations. During WRITE operations, they control the commands sent to the command interface of the program/erase controller.", 29 I/O0 "Address: Selects the cells in the array to access during READ operations. During WRITE operations, they control the commands sent to the command interface of the program/erase controller.", 30 I/O1 "Address: Selects the cells in the array to access during READ operations. During WRITE operations, they control the commands sent to the command interface of the program/erase controller.", 31 I/O2 "Address: Selects the cells in the array to access during READ operations. During WRITE operations, they control the commands sent to the command interface of the program/erase controller.", 32 I/O3 "Address: Selects the cells in the array to access during READ operations. During WRITE operations, they control the commands sent to the command interface of the program/erase controller.", 33 I/O11 "Address: Selects the cells in the array to access during READ operations. During WRITE operations, they control the commands sent to the command interface of the program/erase controller.", 35 NC "Address: Selects the cells in the array to access during READ operations. During WRITE operations, they control the commands sent to the command interface of the program/erase controller.", 38 DNU "Address: Selects the cells in the array to access during READ operations. During WRITE operations, they control the commands sent to the command interface of the program/erase controller.", 40 I/O12 "Address: Selects the cells in the array to access during READ operations. During WRITE operations, they control the commands sent to the command interface of the program/erase controller.", 41 I/O4 "Address: Selects the cells in the array to access during READ operations. During WRITE operations, they control the commands sent to the command interface of the program/erase controller.", 42 I/O5 "Address: Selects the cells in the array to access during READ operations. During WRITE operations, they control the commands sent to the command interface of the program/erase controller.", 43 I/O6 "Address: Selects the cells in the array to access during READ operations. During WRITE operations, they control the commands sent to the command interface of the program/erase controller.", 44 I/O7 "Address: Selects the cells in the array to access during READ operations. During WRITE operations, they control the commands sent to the command interface of the program/erase controller.", 45 I/O13 "Address: Selects the cells in the array to access during READ operations. During WRITE operations, they control the commands sent to the command interface of the program/erase controller.", 46 I/O14 "Address: Selects the cells in the array to access during READ operations. During WRITE operations, they control the commands sent to the command interface of the program/erase controller.", 47 I/O15 "Address: Selects the cells in the array to access during READ operations. During WRITE operations, they control the commands sent to the command interface of the program/erase controller."
part B pins: 12 Vcc "Address: Selects the cells in the array to access during READ operations. During WRITE operations, they control the commands sent to the command interface of the program/erase controller.", 13 Vss "Address: Selects the cells in the array to access during READ operations. During WRITE operations, they control the commands sent to the command interface of the program/erase controller.", 25 Vss "Address: Selects the cells in the array to access during READ operations. During WRITE operations, they control the commands sent to the command interface of the program/erase controller.", 34 Vcc "Address: Selects the cells in the array to access during READ operations. During WRITE operations, they control the commands sent to the command interface of the program/erase controller.", 36 Vss "Address: Selects the cells in the array to access during READ operations. During WRITE operations, they control the commands sent to the command interface of the program/erase controller.", 37 Vcc "Address: Selects the cells in the array to access during READ operations. During WRITE operations, they control the commands sent to the command interface of the program/erase controller.", 39 Vcc "Address: Selects the cells in the array to access during READ operations. During WRITE operations, they control the commands sent to the command interface of the program/erase controller.", 48 Vss "Address: Selects the cells in the array to access during READ operations. During WRITE operations, they control the commands sent to the command interface of the program/erase controller."

## MX608E
designator DD?, comment ?
pins: 1 VCC, 2 INA, 3 INB, 4 VDD, 5 OUTB, 6 GND, 7 GND, 8 OUTA

## NCP551
designator DD?, comment NCP551SN33T1G
footprint SOT-23-5(3-2)
pins: 1 Vin, 2 GND, 3 En, 5 Vout

## OP07
designator DA?, comment ?
ОУ
pins: 1 OS1, 2 IN-, 3 IN+, 4 Vcc-, 5 NC, 6 OUT, 7 Vcc+, 8 OS2
1 alternate drawing of the same symbol

## OPA134
designator DA?, comment ?
pins: 1 OT, 2 Vin-, 3 Vin+, 4 V-, 6 OUT, 7 V+, 8 OT
1 alternate drawing of the same symbol

## OPA170(SOT-23)
designator DA?, comment ?
pins: 1 OUT, 2 V-, 3 Vin+, 4 Vin-, 5 V+

## OPA1632
designator DA?, comment ?
pins: 1 IN-, 2 OCM, 3 VСС+, 4 OUT+, 5 OUT-, 6 VСС-, 7 EN, 8 IN+

## OPA4170
designator DA?
part A pins: 1, 2, 3, 4 V+, 11 V-
part B pins: 5, 6, 7
part C pins: 8, 9, 10
part D pins: 12, 13, 14

## OPA41702
designator DA?, comment OPA4170
part A pins: 1 OUT A, 2 - IN A, 3 + IN A, 4 V+, 5 + IN B, 6 - IN B, 7 OUT B, 8 OUT C, 9 - IN C, 10 + IN C, 11 V-, 12 + IN D, 13 - IN D, 14 OUT D
1 alternate drawing of the same symbol

## OpAmp1Ch
designator DA?, comment ?
pins: 1 NC, 2 IN-, 3 IN+, 4 Vcc-, 5 NC, 6 OUT, 7 Vcc+, 8 NC
1 alternate drawing of the same symbol

## P6AU-0505ELF
designator DD?
Type: SOIC8
footprint SIP-4
pins: 1 GND-IN, 2 VCC-IN, 3 GND-OUT, 4 VCC-OUT

## PCA9535
designator DD?, comment ?
pins: 1 ~{INT}, 2 A1, 3 A2, 4 IO0_0, 5 IO0_1, 6 IO0_2, 7 IO0_3, 8 IO0_4, 9 IO0_5, 10 IO0_6, 11 IO0_7, 12 VSS, 13 IO1_0, 14 IO1_1, 15 IO1_2, 16 IO1_3, 17 IO1_4, 18 IO1_5, 19 IO1_6, 20 IO1_7, 21 A0, 22 SCL, 23 SDA, 24 VDD

## PCF8523TS
designator DD?, comment PCF8523
footprint WSO16 (SOIC, 16-Leads, Body 10.3x7.5mm, Pitch 1.27mm)
pins: 1 32kHz, 2 Vcc, 3 ~{INT}/SQW, 4 ~{RST}, 13 GND, 14 Vbat, 15 SDA, 16 SLC
1 alternate drawing of the same symbol

## PCF8574T
designator DD?
footprint WSO16 (SOIC, 16-Leads, Body 10.3x7.5mm, Pitch 1.27mm)
pins: 1 A0, 2 A1, 3 A3, 4 P0, 5 P1, 6 P2, 7 P3, 8 GND, 9 P4, 10 P5, 11 P6, 12 P7, 13 ~{INT}, 14 SCL, 15 SDA, 16 VCC
1 alternate drawing of the same symbol

## PCM1794
designator DA?
footprint SSOP28
pins: 1 MONO, 2 CHSL, 3 DEM, 4 LRCK, 5 DATA, 6 BCK, 7 SCK, 8 DGND, 9 Vdd, 10 MUTE, 11 FMT0, 12 FMT1, 13 ZERO, 14 ~{RST}, 15 Vcc2R, 16 AGND3R, 17 IoutR+, 18 IoutR-, 19 AGND1, 20 Iref, 21 VcomR, 22 VcomL, 23 Vcc1, 24 AGND2, 25 IoutL+, 26 IoutL-, 27 AGND3L, 28 Vcc2L

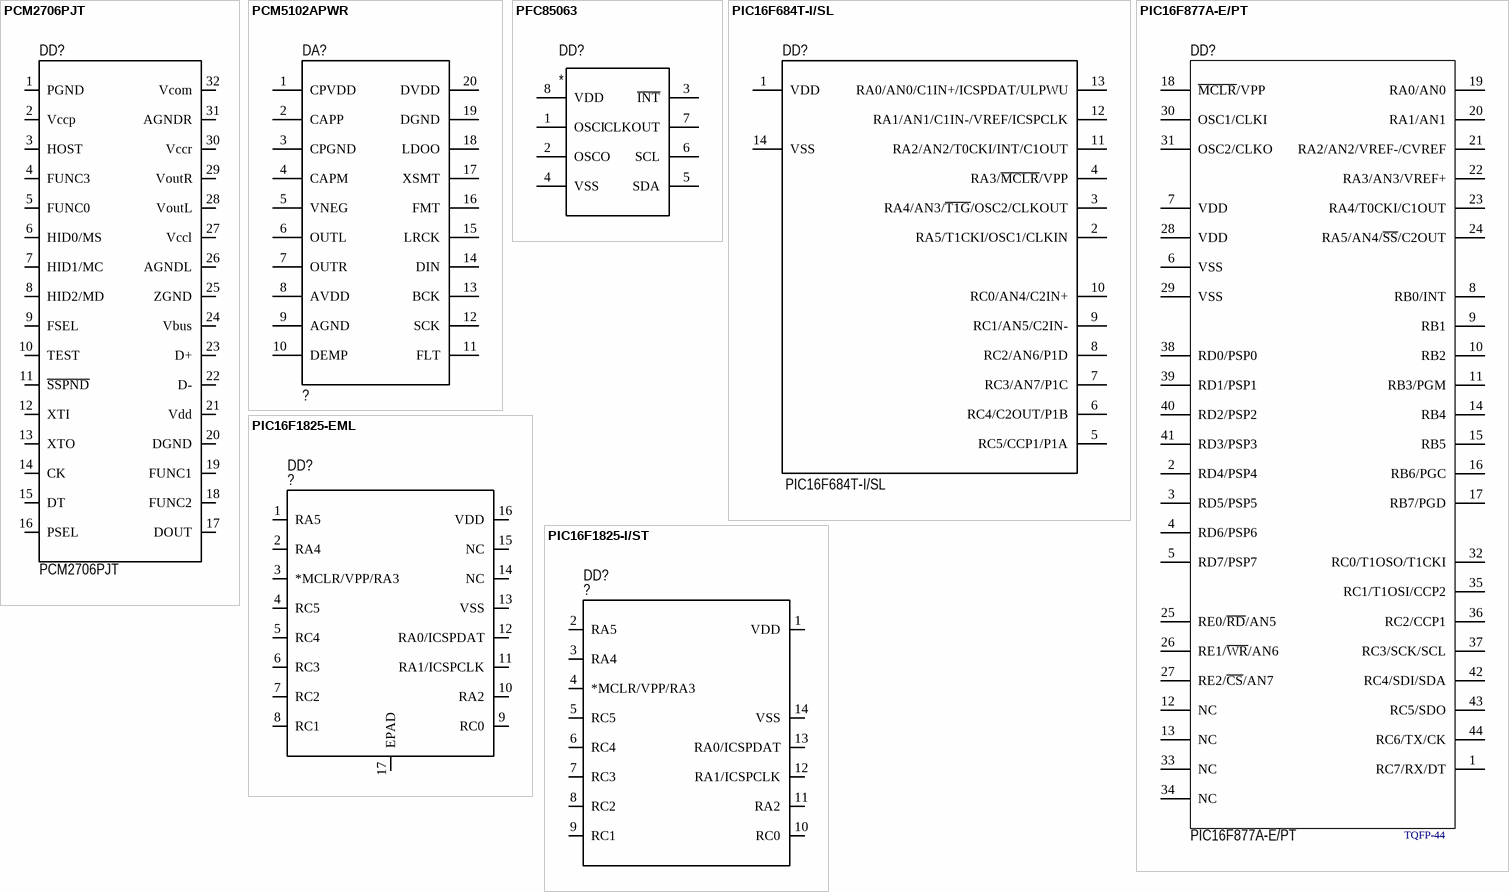
[diagram p12: symbols PCM2706PJT to PIC16F1825-I/ST]

## PCM2706PJT
designator DD?
footprint TQFP32
pins: 1 PGND, 2 Vccp, 3 HOST, 4 FUNC3, 5 FUNC0, 6 HID0/MS, 7 HID1/MC, 8 HID2/MD, 9 FSEL, 10 TEST, 11 ~{SSPND}, 12 XTI, 13 XTO, 14 CK, 15 DT, 16 PSEL, 17 DOUT, 18 FUNC2, 19 FUNC1, 20 DGND, 21 Vdd, 22 D-, 23 D+, 24 Vbus, 25 ZGND, 26 AGNDL, 27 Vccl, 28 VoutL, 29 VoutR, 30 Vccr, 31 AGNDR, 32 Vcom

## PCM5102APWR
designator DA?, comment ?
pins: 1 CPVDD, 2 CAPP, 3 CPGND, 4 CAPM, 5 VNEG, 6 OUTL, 7 OUTR, 8 AVDD, 9 AGND, 10 DEMP, 11 FLT, 12 SCK, 13 BCK, 14 DIN, 15 LRCK, 16 FMT, 17 XSMT, 18 LDOO, 19 DGND, 20 DVDD

## PFC85063
designator DD?
pins: 1 OSCI "Receiver Output", 2 OSCO "Receiver Output", 3 ~{INT} "Receiver Output", 4 VSS "Receiver Output", 5 SDA "Noninverting Receiver Input A/Driver Output A", 6 SCL "Noninverting Receiver Input A/Driver Output A", 7 CLKOUT "Noninverting Receiver Input A/Driver Output A", 8 VDD "Noninverting Receiver Input A/Driver Output A"

## PIC16F684T-I/SL
designator DD?
FLASH-Based 8-Bit CMOS Microcontroller, 10-Bit A/D, 2K (x14-Bit words) FLASH, 128 Bytes SRAM, 14-Pin SOIC, Industrial Temperature, Tape and Reel; DatasheetVersion: revF, Mar-2007; PackageVersion: revBB, Aug-2009; PackageReference: SOIC-SL14; PackageDescription: 14-Lead Plastic Small Outline (SL) - Narrow, 3.90mm Body [SOIC]; Code_JEDEC: MS-012-AB; Code_IPC: SOIC127P600-14; ComponentLink1Description: Manufacturer URL; ComponentLink1URL: http://www.microchip.com/; ComponentLink2Description: Datasheet; ComponentLink2URL: http://ww1.microchip.com/downloads/en/DeviceDoc/41202F-print.pdf; ComponentLink3Description: Package Specification; ComponentLink3URL: http://www.microchip.com/stellent/groups/techpub_sg/documents/packagingspec/en012702.pdf
footprint SO-14
pins: 1 VDD (power), 2 RA5/T1CKI/OSC1/CLKIN, 3 RA4/AN3/~{T1G}/OSC2/CLKOUT, 4 RA3/~{MCLR}/VPP, 5 RC5/CCP1/P1A, 6 RC4/C2OUT/P1B, 7 RC3/AN7/P1C, 8 RC2/AN6/P1D, 9 RC1/AN5/C2IN-, 10 RC0/AN4/C2IN+, 11 RA2/AN2/T0CKI/INT/C1OUT, 12 RA1/AN1/C1IN-/VREF/ICSPCLK, 13 RA0/AN0/C1IN+/ICSPDAT/ULPWU, 14 VSS (power)

## PIC16F877A-E/PT
designator DD?  Type: TQFP-44
Enhanced FLASH Microcontroller, 8K (x14-Bit words) FLASH, 368 Bytes RAM, 44-Pin TQFP, Standard VDD Range, Extended Temperature
footprint TQFP-PT44 (Thin QFP, 44-Leads, Body 10x10mm, Pitch 0.8mm, IPC Medium Density)
pins: 1 RC7/RX/DT, 2 RD4/PSP4, 3 RD5/PSP5, 4 RD6/PSP6, 5 RD7/PSP7, 6 VSS, 7 VDD, 8 RB0/INT, 9 RB1, 10 RB2, 11 RB3/PGM, 12 NC, 13 NC, 14 RB4, 15 RB5, 16 RB6/PGC, 17 RB7/PGD, 18 ~{MCLR}/VPP, 19 RA0/AN0, 20 RA1/AN1, 21 RA2/AN2/VREF-/CVREF, 22 RA3/AN3/VREF+, 23 RA4/T0CKI/C1OUT, 24 RA5/AN4/~{SS}/C2OUT, 25 RE0/~{RD}/AN5, 26 RE1/~{WR}/AN6, 27 RE2/~{CS}/AN7, 28 VDD, 29 VSS, 30 OSC1/CLKI, 31 OSC2/CLKO, 32 RC0/T1OSO/T1CKI, 33 NC, 34 NC, 35 RC1/T1OSI/CCP2, 36 RC2/CCP1, 37 RC3/SCK/SCL, 38 RD0/PSP0, 39 RD1/PSP1, 40 RD2/PSP2, 41 RD3/PSP3, 42 RC4/SDI/SDA, 43 RC5/SDO, 44 RC6/TX/CK

## PIC16F1825-EML
designator DD?, comment ?
Mfr_Name: Microchip; RefDes: RefDes; Type: Type
pins: 1 RA5, 2 RA4, 3 *MCLR/VPP/RA3, 4 RC5, 5 RC4, 6 RC3, 7 RC2, 8 RC1, 9 RC0, 10 RA2, 11 RA1/ICSPCLK, 12 RA0/ICSPDAT, 13 VSS, 14 NC, 15 NC, 16 VDD, 17 EPAD

## PIC16F1825-I/ST
designator DD?, comment ?
Mfr_Name: Microchip; RefDes: RefDes; Type: Type
pins: 1 VDD, 2 RA5, 3 RA4, 4 *MCLR/VPP/RA3, 5 RC5, 6 RC4, 7 RC3, 8 RC2, 9 RC1, 10 RC0, 11 RA2, 12 RA1/ICSPCLK, 13 RA0/ICSPDAT, 14 VSS

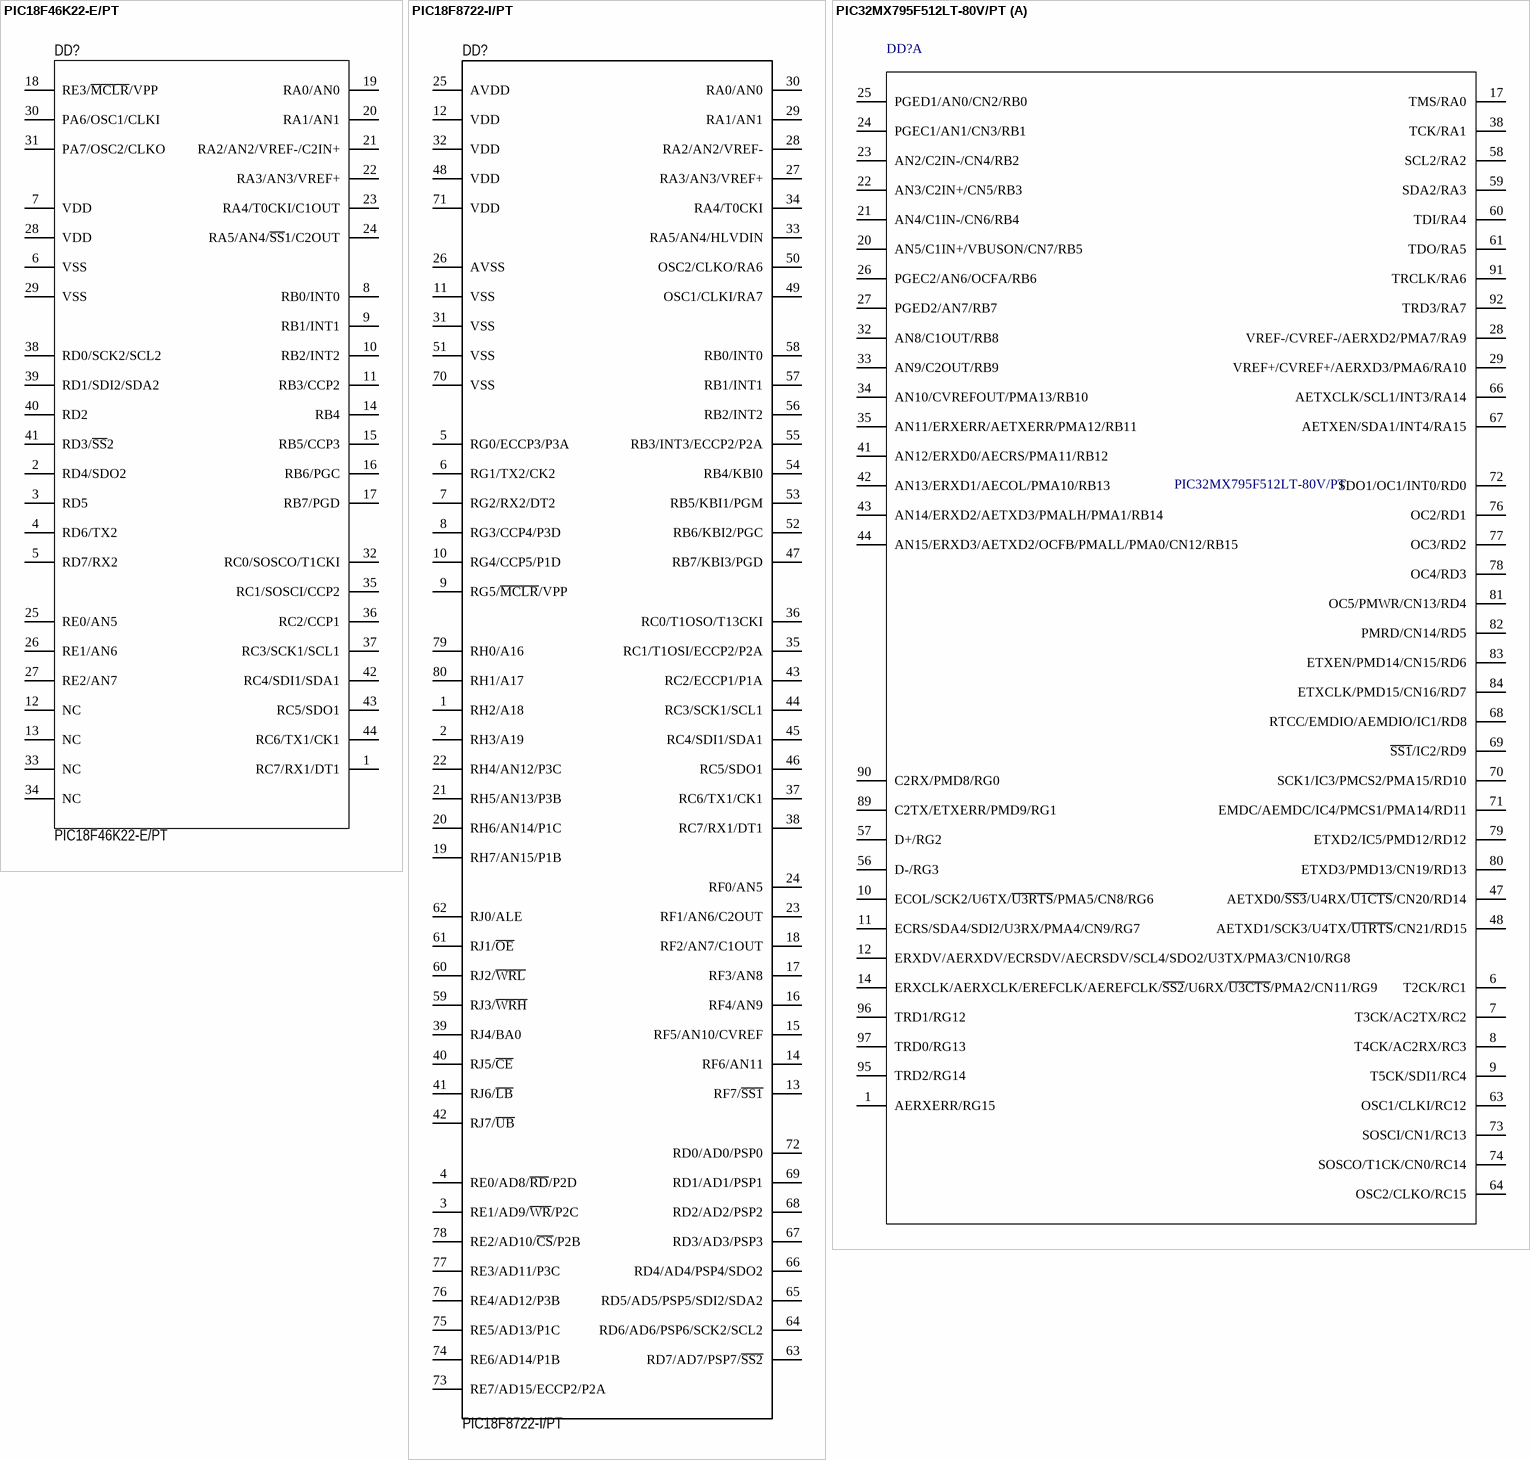
[diagram p13: symbols PIC18F46K22-E/PT to PIC32MX795F512LT-80V/PT]

## PIC18F46K22-E/PT
designator DD?
Enhanced FLASH Microcontroller, 8K (x14-Bit words) FLASH, 368 Bytes RAM, 44-Pin TQFP, Standard VDD Range, Extended Temperature; DatasheetVersion: revB, Oct-2003; PackageVersion: revBB, Aug-2009; PackageReference: TQFP-PT44; PackageDescription: 44-Lead Plastic Thin Quad Flatpack (PT) - 10x10x1mm Body, 2.00mm [TQFP]; Code_JEDEC: MS-026; ComponentLink1Description: Manufacturer URL; ComponentLink1URL: http://www.microchip.com/; ComponentLink2Description: Datasheet; ComponentLink2URL: http://ww1.microchip.com/downloads/en/DeviceDoc/39582b.pdf; ComponentLink3Description: Package Specification; ComponentLink3URL: http://www.microchip.com/stellent/groups/techpub_sg/documents/packagingspec/en012702.pdf
footprint TQFP-PT44 (Thin QFP, 44-Leads, Body 10x10mm, Pitch 0.8mm, IPC Medium Density)
pins: 1 RC7/RX1/DT1, 2 RD4/SDO2, 3 RD5, 4 RD6/TX2, 5 RD7/RX2, 6 VSS, 7 VDD, 8 RB0/INT0, 9 RB1/INT1, 10 RB2/INT2, 11 RB3/CCP2, 12 NC, 13 NC, 14 RB4, 15 RB5/CCP3, 16 RB6/PGC, 17 RB7/PGD, 18 RE3/~{MCLR}/VPP, 19 RA0/AN0, 20 RA1/AN1, 21 RA2/AN2/VREF-/C2IN+, 22 RA3/AN3/VREF+, 23 RA4/T0CKI/C1OUT, 24 RA5/AN4/~{SS}1/C2OUT, 25 RE0/AN5, 26 RE1/AN6, 27 RE2/AN7, 28 VDD, 29 VSS, 30 PA6/OSC1/CLKI, 31 PA7/OSC2/CLKO, 32 RC0/SOSCO/T1CKI, 33 NC, 34 NC, 35 RC1/SOSCI/CCP2, 36 RC2/CCP1, 37 RC3/SCK1/SCL1, 38 RD0/SCK2/SCL2, 39 RD1/SDI2/SDA2, 40 RD2, 41 RD3/~{SS}2, 42 RC4/SDI1/SDA1, 43 RC5/SDO1, 44 RC6/TX1/CK1

## PIC18F8722-I/PT
designator DD?
1-Mbit, Enhanced Flash Microcontroller with 10-Bit A/D and nanoWatt Technology, 128K Flash, 80-Pin TQFP, Industrial Temperature Range
pins: 1 RH2/A18, 2 RH3/A19, 3 RE1/AD9/~{WR}/P2C, 4 RE0/AD8/~{RD}/P2D, 5 RG0/ECCP3/P3A, 6 RG1/TX2/CK2, 7 RG2/RX2/DT2, 8 RG3/CCP4/P3D, 9 RG5/~{MCLR}/VPP, 10 RG4/CCP5/P1D, 11 VSS (power), 12 VDD (power), 13 RF7/~{SS1}, 14 RF6/AN11, 15 RF5/AN10/CVREF, 16 RF4/AN9, 17 RF3/AN8, 18 RF2/AN7/C1OUT, 19 RH7/AN15/P1B, 20 RH6/AN14/P1C, 21 RH5/AN13/P3B, 22 RH4/AN12/P3C, 23 RF1/AN6/C2OUT, 24 RF0/AN5, 25 AVDD (power), 26 AVSS (power), 27 RA3/AN3/VREF+, 28 RA2/AN2/VREF-, 29 RA1/AN1, 30 RA0/AN0, 31 VSS (power), 32 VDD (power), 33 RA5/AN4/HLVDIN, 34 RA4/T0CKI, 35 RC1/T1OSI/ECCP2/P2A, 36 RC0/T1OSO/T13CKI, 37 RC6/TX1/CK1, 38 RC7/RX1/DT1, 39 RJ4/BA0, 40 RJ5/~{CE}, 41 RJ6/~{LB}, 42 RJ7/~{UB}, 43 RC2/ECCP1/P1A, 44 RC3/SCK1/SCL1, 45 RC4/SDI1/SDA1, 46 RC5/SDO1, 47 RB7/KBI3/PGD, 48 VDD (power), 49 OSC1/CLKI/RA7, 50 OSC2/CLKO/RA6, 51 VSS (power), 52 RB6/KBI2/PGC, 53 RB5/KBI1/PGM, 54 RB4/KBI0, 55 RB3/INT3/ECCP2/P2A, 56 RB2/INT2, 57 RB1/INT1, 58 RB0/INT0, 59 RJ3/~{WRH}, 60 RJ2/~{WRL}, 61 RJ1/~{OE}, 62 RJ0/ALE, 63 RD7/AD7/PSP7/~{SS2}, 64 RD6/AD6/PSP6/SCK2/SCL2, 65 RD5/AD5/PSP5/SDI2/SDA2, 66 RD4/AD4/PSP4/SDO2, 67 RD3/AD3/PSP3, 68 RD2/AD2/PSP2, 69 RD1/AD1/PSP1, 70 VSS (power), 71 VDD (power), 72 RD0/AD0/PSP0, 73 RE7/AD15/ECCP2/P2A, 74 RE6/AD14/P1B, 75 RE5/AD13/P1C, 76 RE4/AD12/P3B, 77 RE3/AD11/P3C, 78 RE2/AD10/~{CS}/P2B, 79 RH0/A16, 80 RH1/A17

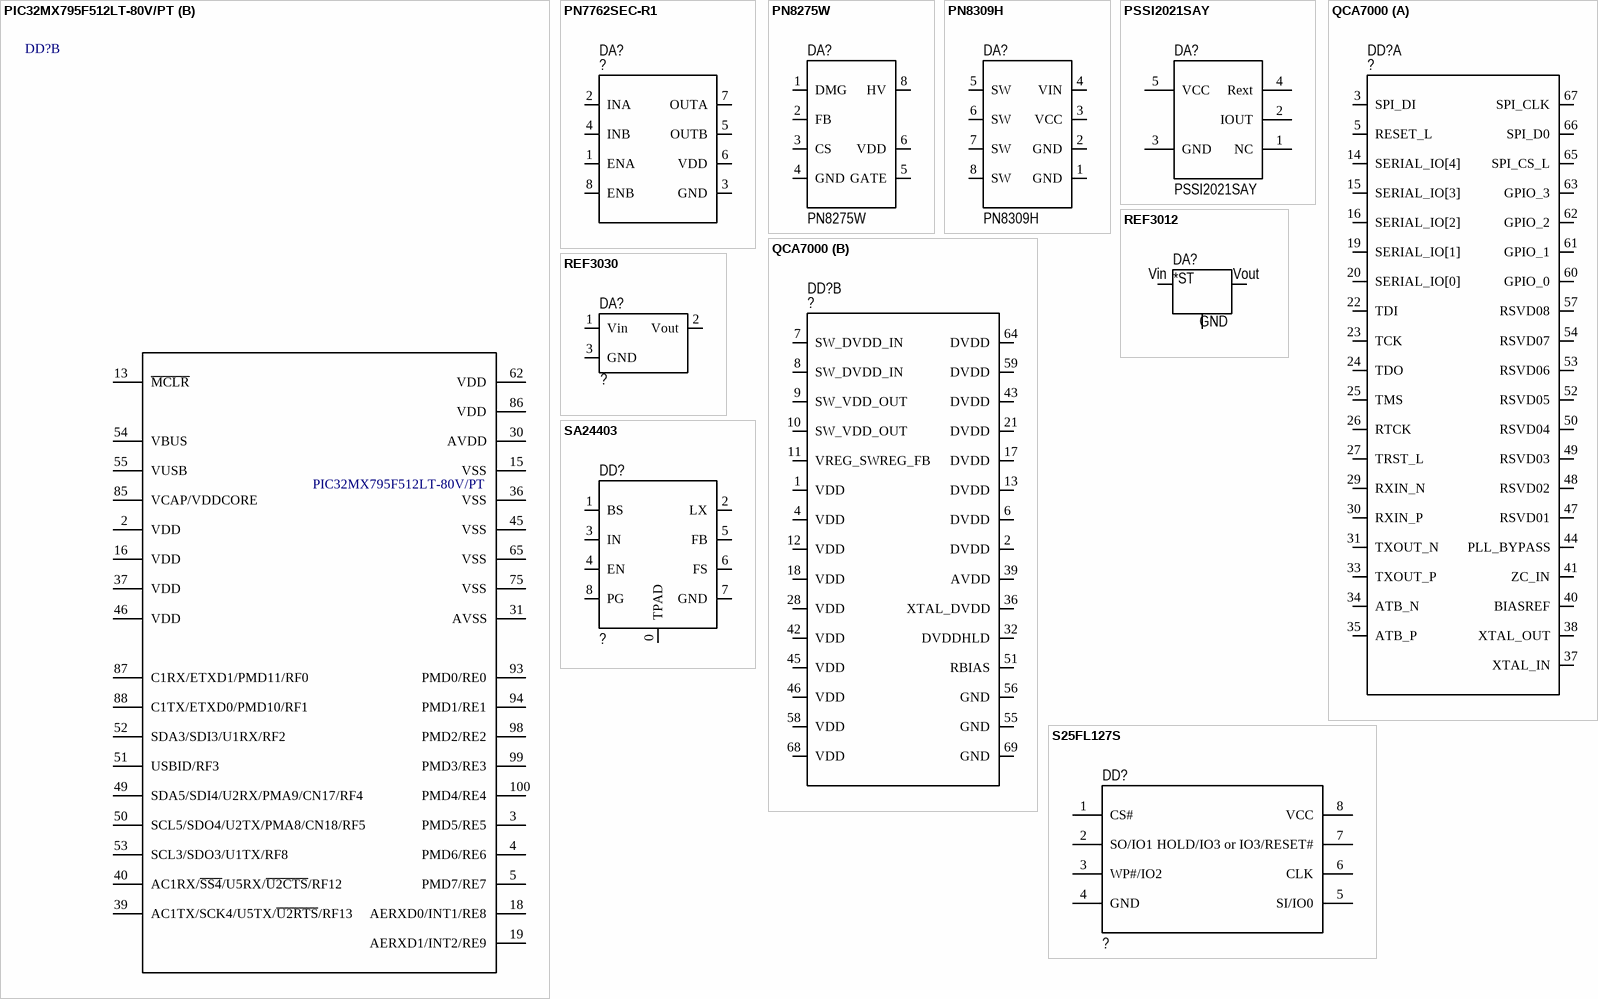
[diagram p14: symbols PIC32MX795F512LT-80V/PT to SA24403]

## PIC32MX795F512LT-80V/PT
designator DD?
High Performance 80 MHz MIPS-Based 32-Bit Flash Microcontroller with USB, CAN and Ethernet, 512KB Program Memory, 100-pin TQFP, V-Temperature, Tape and Reel; DatasheetVersion: revG, May-2011; PackageVersion: revBB, Aug-2009; PackageReference: TQFP-PT100; PackageDescription: 100-Lead Plastic Thin Quad Flatpack (PT) - 12x12x1mm Body, 2.00mm [TQFP]; ComponentLink1Description: Manufacturer URL; ComponentLink1URL: http://www.microchip.com/; ComponentLink2Description: Datasheet; ComponentLink2URL: http://ww1.microchip.com/downloads/en/DeviceDoc/61156G.pdf; ComponentLink3Description: Package Specification; ComponentLink3URL: http://ww1.microchip.com/downloads/en/PackagingSpec/en012702.pdf
footprint TQFP-PT100 (Thin QFP, 100-Leads, Body 12x12mm, Pitch 0.4mm, IPC Medium Density)
part A pins: 1 AERXERR/RG15, 6 T2CK/RC1, 7 T3CK/AC2TX/RC2, 8 T4CK/AC2RX/RC3, 9 T5CK/SDI1/RC4, 10 ECOL/SCK2/U6TX/~{U3RTS}/PMA5/CN8/RG6, 11 ECRS/SDA4/SDI2/U3RX/PMA4/CN9/RG7, 12 ERXDV/AERXDV/ECRSDV/AECRSDV/SCL4/SDO2/U3TX/PMA3/CN10/RG8, 14 ERXCLK/AERXCLK/EREFCLK/AEREFCLK/~{SS2}/U6RX/~{U3CTS}/PMA2/CN11/RG9, 17 TMS/RA0, 20 AN5/C1IN+/VBUSON/CN7/RB5, 21 AN4/C1IN-/CN6/RB4, 22 AN3/C2IN+/CN5/RB3, 23 AN2/C2IN-/CN4/RB2, 24 PGEC1/AN1/CN3/RB1, 25 PGED1/AN0/CN2/RB0, 26 PGEC2/AN6/OCFA/RB6, 27 PGED2/AN7/RB7, 28 VREF-/CVREF-/AERXD2/PMA7/RA9, 29 VREF+/CVREF+/AERXD3/PMA6/RA10, 32 AN8/C1OUT/RB8, 33 AN9/C2OUT/RB9, 34 AN10/CVREFOUT/PMA13/RB10, 35 AN11/ERXERR/AETXERR/PMA12/RB11, 38 TCK/RA1, 41 AN12/ERXD0/AECRS/PMA11/RB12, 42 AN13/ERXD1/AECOL/PMA10/RB13, 43 AN14/ERXD2/AETXD3/PMALH/PMA1/RB14, 44 AN15/ERXD3/AETXD2/OCFB/PMALL/PMA0/CN12/RB15, 47 AETXD0/~{SS3}/U4RX/~{U1CTS}/CN20/RD14, 48 AETXD1/SCK3/U4TX/~{U1RTS}/CN21/RD15, 56 D-/RG3, 57 D+/RG2, 58 SCL2/RA2, 59 SDA2/RA3, 60 TDI/RA4, 61 TDO/RA5, 63 OSC1/CLKI/RC12, 64 OSC2/CLKO/RC15, 66 AETXCLK/SCL1/INT3/RA14, 67 AETXEN/SDA1/INT4/RA15, 68 RTCC/EMDIO/AEMDIO/IC1/RD8, 69 ~{SS1}/IC2/RD9, 70 SCK1/IC3/PMCS2/PMA15/RD10, 71 EMDC/AEMDC/IC4/PMCS1/PMA14/RD11, 72 SDO1/OC1/INT0/RD0, 73 SOSCI/CN1/RC13, 74 SOSCO/T1CK/CN0/RC14, 76 OC2/RD1, 77 OC3/RD2, 78 OC4/RD3, 79 ETXD2/IC5/PMD12/RD12, 80 ETXD3/PMD13/CN19/RD13, 81 OC5/PMWR/CN13/RD4, 82 PMRD/CN14/RD5, 83 ETXEN/PMD14/CN15/RD6, 84 ETXCLK/PMD15/CN16/RD7, 89 C2TX/ETXERR/PMD9/RG1, 90 C2RX/PMD8/RG0, 91 TRCLK/RA6, 92 TRD3/RA7, 95 TRD2/RG14, 96 TRD1/RG12, 97 TRD0/RG13
part B pins: 2 VDD (power), 3 PMD5/RE5, 4 PMD6/RE6, 5 PMD7/RE7, 13 ~{MCLR}, 15 VSS (power), 16 VDD (power), 18 AERXD0/INT1/RE8, 19 AERXD1/INT2/RE9, 30 AVDD (power), 31 AVSS (power), 36 VSS (power), 37 VDD (power), 39 AC1TX/SCK4/U5TX/~{U2RTS}/RF13, 40 AC1RX/~{SS4}/U5RX/~{U2CTS}/RF12, 45 VSS (power), 46 VDD (power), 49 SDA5/SDI4/U2RX/PMA9/CN17/RF4, 50 SCL5/SDO4/U2TX/PMA8/CN18/RF5, 51 USBID/RF3, 52 SDA3/SDI3/U1RX/RF2, 53 SCL3/SDO3/U1TX/RF8, 54 VBUS, 55 VUSB (power), 62 VDD (power), 65 VSS (power), 75 VSS (power), 85 VCAP/VDDCORE (power), 86 VDD (power), 87 C1RX/ETXD1/PMD11/RF0, 88 C1TX/ETXD0/PMD10/RF1, 93 PMD0/RE0, 94 PMD1/RE1, 98 PMD2/RE2, 99 PMD3/RE3, 100 PMD4/RE4

## PN7762SEC-R1
designator DA?, comment ?
pins: 1 ENA, 2 INA, 3 GND, 4 INB, 5 OUTB, 6 VDD, 7 OUTA, 8 ENB
1 alternate drawing of the same symbol

## PN8275W
designator DA?
pins: 1 DMG, 2 FB, 3 CS, 4 GND, 5 GATE (oc), 6 VDD, 8 HV

## PN8309H
designator DA?
pins: 1 GND, 2 GND, 3 VCC, 4 VIN, 5 SW (oc), 6 SW, 7 SW, 8 SW

## PSSI2021SAY
designator DA?
Источник тока
pins: 1 NC, 2 IOUT, 3 GND, 4 Rext, 5 VCC
1 alternate drawing of the same symbol

## QCA7000
designator DD?, comment ?
Footprint: Package_DFN_QFN:QFN-68-1EP_8x8mm_P0.4mm_EP5.2x5.2mm_ThermalVias; Supplier: https://www.usbid.com/assets/datasheets/21/qualcom.pdf
part A pins: 3 SPI_DI, 5 RESET_L, 14 SERIAL_IO[4], 15 SERIAL_IO[3], 16 SERIAL_IO[2], 19 SERIAL_IO[1], 20 SERIAL_IO[0], 22 TDI, 23 TCK, 24 TDO, 25 TMS, 26 RTCK, 27 TRST_L, 29 RXIN_N, 30 RXIN_P, 31 TXOUT_N, 33 TXOUT_P, 34 ATB_N, 35 ATB_P, 37 XTAL_IN, 38 XTAL_OUT, 40 BIASREF, 41 ZC_IN, 44 PLL_BYPASS, 47 RSVD01, 48 RSVD02, 49 RSVD03, 50 RSVD04, 52 RSVD05, 53 RSVD06, 54 RSVD07, 57 RSVD08, 60 GPIO_0, 61 GPIO_1, 62 GPIO_2, 63 GPIO_3, 65 SPI_CS_L, 66 SPI_D0, 67 SPI_CLK
part B pins: 1 VDD, 2 DVDD, 4 VDD, 6 DVDD, 7 SW_DVDD_IN, 8 SW_DVDD_IN, 9 SW_VDD_OUT, 10 SW_VDD_OUT, 11 VREG_SWREG_FB, 12 VDD, 13 DVDD, 17 DVDD, 18 VDD, 21 DVDD, 28 VDD, 32 DVDDHLD, 36 XTAL_DVDD, 39 AVDD, 42 VDD, 43 DVDD, 45 VDD, 46 VDD, 51 RBIAS, 55 GND, 56 GND, 58 VDD, 59 DVDD, 64 DVDD, 68 VDD, 69 GND

## REF3012
designator DA?, comment REF3012AIDBZT  (value not drawn)
footprint SOT-23_
pins: 1, 2, 3
text: *ST; Vin; Vout; GND

## REF3030
designator DA?, comment ?
pins: 1 Vin, 2 Vout, 3 GND

## S25FL127S
designator DD?, comment ?
Manufacturer: Spansion; Type: S25FL127S
footprint SO-8W(5.2x8)
pins: 1 CS# "Output Enable", 2 SO/IO1 "Input A", 3 WP#/IO2 "Ground", 4 GND "Output Y", 5 SI/IO0 "Output Y", 6 CLK "Output Y", 7 HOLD/IO3 or IO3/RESET# "Output Y", 8 VCC "Output Y"

## SA24403
designator DD?, comment ?
Manufacturer: Analog Device; Type: ADG722BRM
pins: 0 TPAD "Output Y", 1 BS "Output Enable", 2 LX "Input A", 3 IN "Ground", 4 EN "Output Y", 5 FB "Output Y", 6 FS "Output Y", 7 GND "Output Y", 8 PG "Output Y"

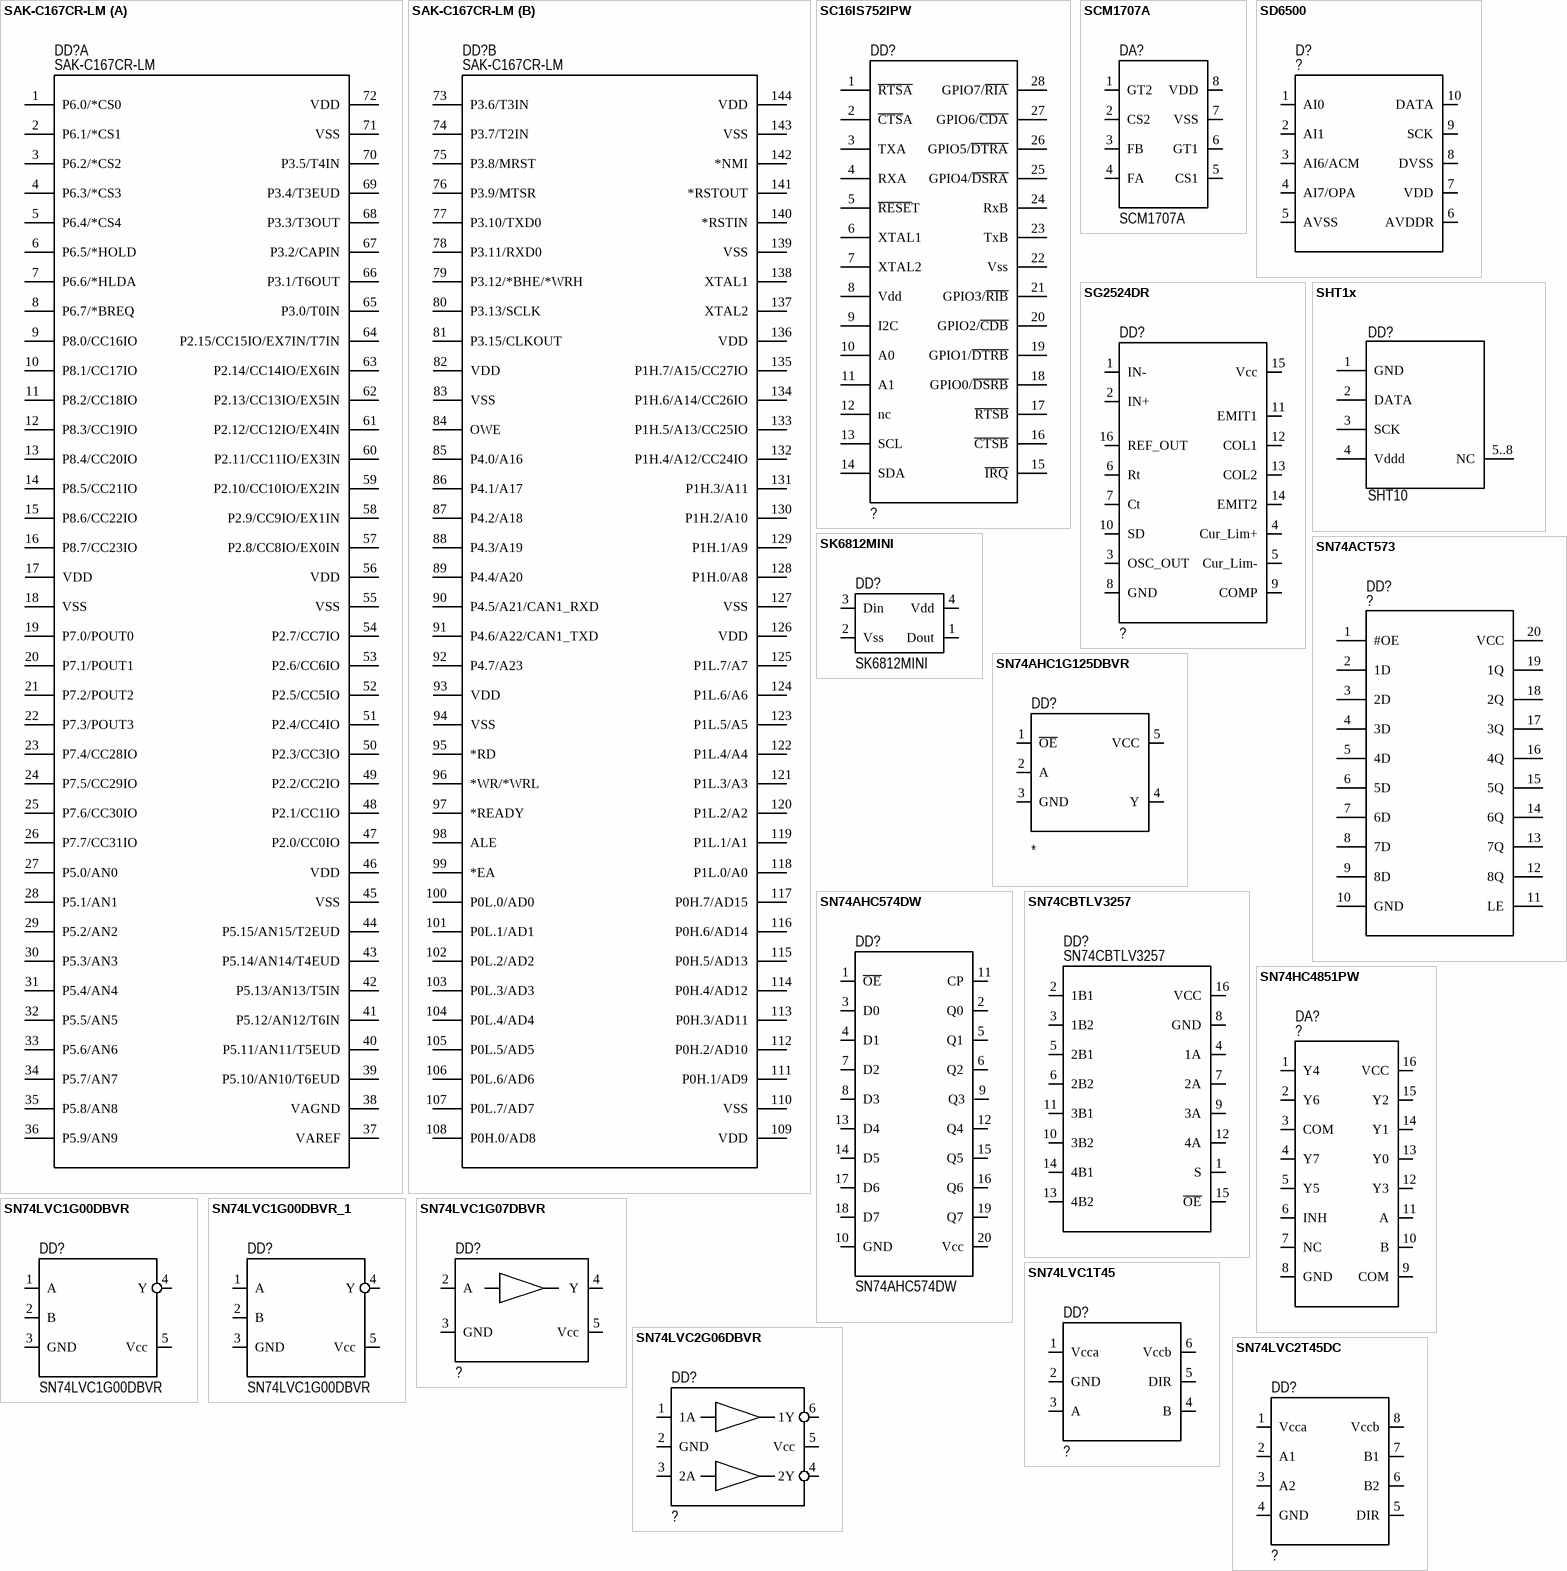
[diagram p15: symbols SAK-C167CR-LM to SN74LVC2T45DC]

## SAK-C167CR-LM
designator DD?
Mfr_Name: Infineon; Copyright: Copyright (C) 2023 Ultra Librarian. All rights reserved.; Manufacturer_Part_Number: SAK-C167CR-LM; RefDes: RefDes; Type: DEV
part A pins: 1 P6.0/*CS0, 2 P6.1/*CS1, 3 P6.2/*CS2, 4 P6.3/*CS3, 5 P6.4/*CS4, 6 P6.5/*HOLD, 7 P6.6/*HLDA, 8 P6.7/*BREQ, 9 P8.0/CC16IO, 10 P8.1/CC17IO, 11 P8.2/CC18IO, 12 P8.3/CC19IO, 13 P8.4/CC20IO, 14 P8.5/CC21IO, 15 P8.6/CC22IO, 16 P8.7/CC23IO, 17 VDD, 18 VSS, 19 P7.0/POUT0, 20 P7.1/POUT1, 21 P7.2/POUT2, 22 P7.3/POUT3, 23 P7.4/CC28IO, 24 P7.5/CC29IO, 25 P7.6/CC30IO, 26 P7.7/CC31IO, 27 P5.0/AN0, 28 P5.1/AN1, 29 P5.2/AN2, 30 P5.3/AN3, 31 P5.4/AN4, 32 P5.5/AN5, 33 P5.6/AN6, 34 P5.7/AN7, 35 P5.8/AN8, 36 P5.9/AN9, 37 VAREF, 38 VAGND, 39 P5.10/AN10/T6EUD, 40 P5.11/AN11/T5EUD, 41 P5.12/AN12/T6IN, 42 P5.13/AN13/T5IN, 43 P5.14/AN14/T4EUD, 44 P5.15/AN15/T2EUD, 45 VSS, 46 VDD, 47 P2.0/CC0IO, 48 P2.1/CC1IO, 49 P2.2/CC2IO, 50 P2.3/CC3IO, 51 P2.4/CC4IO, 52 P2.5/CC5IO, 53 P2.6/CC6IO, 54 P2.7/CC7IO, 55 VSS, 56 VDD, 57 P2.8/CC8IO/EX0IN, 58 P2.9/CC9IO/EX1IN, 59 P2.10/CC10IO/EX2IN, 60 P2.11/CC11IO/EX3IN, 61 P2.12/CC12IO/EX4IN, 62 P2.13/CC13IO/EX5IN, 63 P2.14/CC14IO/EX6IN, 64 P2.15/CC15IO/EX7IN/T7IN, 65 P3.0/T0IN, 66 P3.1/T6OUT, 67 P3.2/CAPIN, 68 P3.3/T3OUT, 69 P3.4/T3EUD, 70 P3.5/T4IN, 71 VSS, 72 VDD
part B pins: 73 P3.6/T3IN, 74 P3.7/T2IN, 75 P3.8/MRST, 76 P3.9/MTSR, 77 P3.10/TXD0, 78 P3.11/RXD0, 79 P3.12/*BHE/*WRH, 80 P3.13/SCLK, 81 P3.15/CLKOUT, 82 VDD, 83 VSS, 84 OWE, 85 P4.0/A16, 86 P4.1/A17, 87 P4.2/A18, 88 P4.3/A19, 89 P4.4/A20, 90 P4.5/A21/CAN1_RXD, 91 P4.6/A22/CAN1_TXD, 92 P4.7/A23, 93 VDD, 94 VSS, 95 *RD, 96 *WR/*WRL, 97 *READY, 98 ALE, 99 *EA, 100 P0L.0/AD0, 101 P0L.1/AD1, 102 P0L.2/AD2, 103 P0L.3/AD3, 104 P0L.4/AD4, 105 P0L.5/AD5, 106 P0L.6/AD6, 107 P0L.7/AD7, 108 P0H.0/AD8, 109 VDD, 110 VSS, 111 P0H.1/AD9, 112 P0H.2/AD10, 113 P0H.3/AD11, 114 P0H.4/AD12, 115 P0H.5/AD13, 116 P0H.6/AD14, 117 P0H.7/AD15, 118 P1L.0/A0, 119 P1L.1/A1, 120 P1L.2/A2, 121 P1L.3/A3, 122 P1L.4/A4, 123 P1L.5/A5, 124 P1L.6/A6, 125 P1L.7/A7, 126 VDD, 127 VSS, 128 P1H.0/A8, 129 P1H.1/A9, 130 P1H.2/A10, 131 P1H.3/A11, 132 P1H.4/A12/CC24IO, 133 P1H.5/A13/CC25IO, 134 P1H.6/A14/CC26IO, 135 P1H.7/A15/CC27IO, 136 VDD, 137 XTAL2, 138 XTAL1, 139 VSS, 140 *RSTIN, 141 *RSTOUT, 142 *NMI, 143 VSS, 144 VDD

## SC16IS752IPW
designator DD?, comment ?
pins: 1 ~{RTSA}, 2 ~{CTS}A, 3 TXA, 4 RXA, 5 ~{RESE}T, 6 XTAL1, 7 XTAL2, 8 Vdd, 9 I2C, 10 A0, 11 A1, 12 nc, 13 SCL, 14 SDA, 15 ~{IRQ}, 16 ~{CTSB}, 17 ~{RTSB}, 18 GPIO0/~{DSRB}, 19 GPIO1/~{DTRB}, 20 GPIO2/~{CDB}, 21 GPIO3/~{RIB}, 22 Vss, 23 TxB, 24 RxB, 25 GPIO4/~{DSRA}, 26 GPIO5/~{DTRA}, 27 GPIO6/~{CDA}, 28 GPIO7/~{RIA}

## SCM1707A
designator DA?
pins: 1 GT2, 2 CS2, 3 FB, 4 FA, 5 CS1 (oc), 6 GT1, 7 VSS, 8 VDD

## SD6500
designator D?, comment ?
8 Bits DAC and 2 Diff High Precision ADC
pins: 1 AI0, 2 AI1, 3 AI6/ACM, 4 AI7/OPA, 5 AVSS, 6 AVDDR, 7 VDD, 8 DVSS, 9 SCK, 10 DATA

## SG2524DR
designator DD?, comment ?
pins: 1 IN-, 2 IN+, 3 OSC_OUT, 4 Cur_Lim+, 5 Cur_Lim-, 6 Rt, 7 Ct, 8 GND, 9 COMP, 10 SD, 11 EMIT1, 12 COL1, 13 COL2, 14 EMIT2, 15 Vcc, 16 REF_OUT

## SHT1x
designator DD?, comment SHT10
Humidity and Temperature Sensor; About: Цифровой датчик влажности; Type: SHTx
footprint SHT1x (Humidity and Temperature Sensor SHT1x)
pins: 1 GND (oc), 2 DATA, 3 SCK, 4 Vddd (power), 5 NC, 6 NC, 7 NC, 8 NC
text: 5..8

## SK6812MINI
designator DD?
Светодиод SMD RGB с пиксельной адресацией
footprint SK6812MINI
pins: 1 Dout, 2 Vss, 3 Din, 4 Vdd